# Altium schematic symbol library Dien Tro.SchLib: 576 symbols (part 2 of 3)
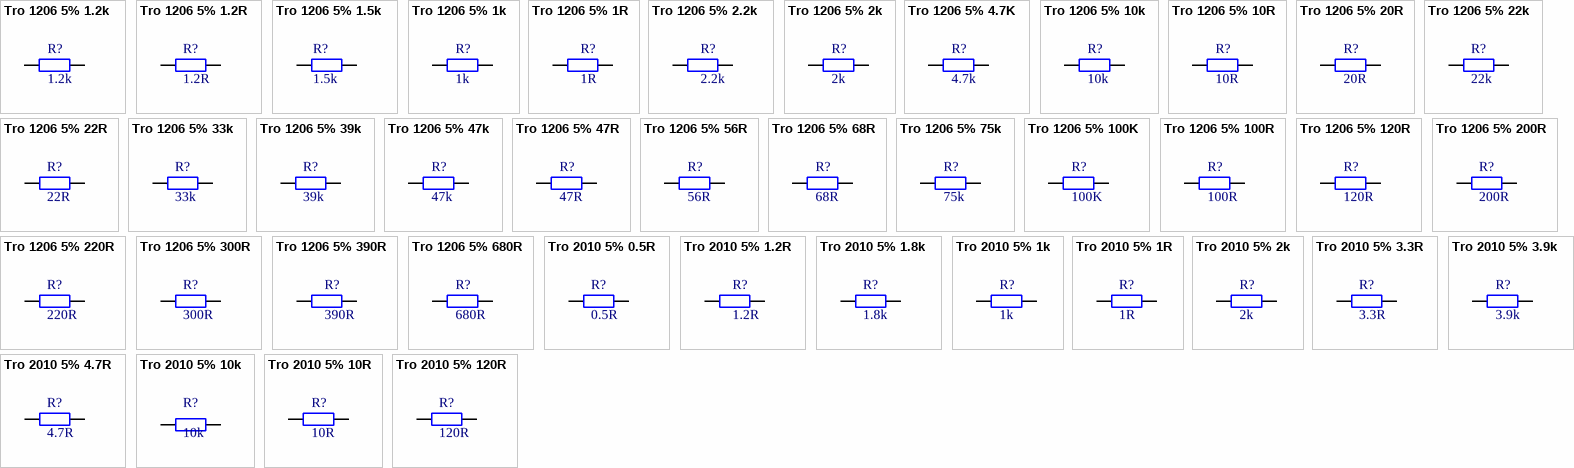
[diagram p15: symbols Tro 1206 5% 1.2k to Tro 2010 5% 120R]

## Tro 2010 5% 10k
designator R?, comment 10k
Dán; Don_Vi: Con; So_Chan: 2; Ten_Linh_Kien: Trở 2010 5% 103-10k; Ma_Hang: MH005617; Chung_Loai: Dán; Kieu_Chan: *
footprint tro smd 2010
pins: 1, 2

## Tro 2010 5% 10R
designator R?, comment 10R
Dán; Don_Vi: Con; So_Chan: 2; Ten_Linh_Kien: Trở 2010 5% 100-10R; Ma_Hang: MH003438; Chung_Loai: Dán; Kieu_Chan: *
footprint tro smd 2010
pins: 1, 2

## Tro 2010 5% 120R
designator R?, comment 120R
Dán; Don_Vi: Con; So_Chan: 2; Ten_Linh_Kien: Trở 2010 5% 121-120R; Ma_Hang: MH003441; Chung_Loai: Dán; Kieu_Chan: *
footprint tro smd 2010
pins: 1, 2

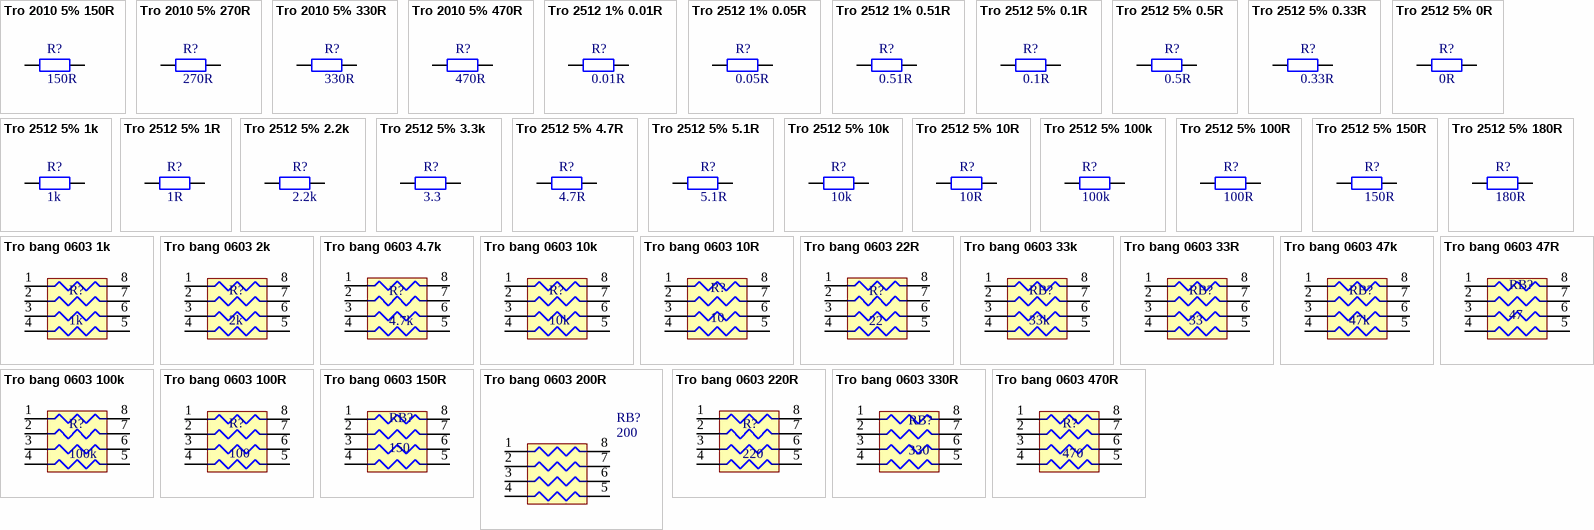
[diagram p6: symbols Tro 2010 5% 150R to Tro bang 0603 470R]

## Tro 2010 5% 150R
designator R?, comment 150R
Dán; Don_Vi: Con; So_Chan: 2; Ten_Linh_Kien: Trở 2010 5% 151-150R; Ma_Hang: MH005996; Chung_Loai: Dán; Kieu_Chan: *
footprint tro smd 2010
pins: 1, 2

## Tro 2010 5% 270R
designator R?, comment 270R
Dán; Don_Vi: Con; So_Chan: 2; Ten_Linh_Kien: Trở 2010 5% 271-270R; Ma_Hang: MH003443; Chung_Loai: Dán; Kieu_Chan: *
footprint tro smd 2010
pins: 1, 2

## Tro 2010 5% 330R
designator R?, comment 330R
Dán; Don_Vi: Con; So_Chan: 2; Ten_Linh_Kien: Trở 2010 5% 331-330R; Ma_Hang: MH003444; Chung_Loai: Dán; Kieu_Chan: *
footprint tro smd 2010
pins: 1, 2

## Tro 2010 5% 470R
designator R?, comment 470R
Dán; Don_Vi: Con; So_Chan: 2; Ten_Linh_Kien: Trở 2010 5% 471-470R; Ma_Hang: MH003445; Chung_Loai: Dán; Kieu_Chan: *
footprint tro smd 2010
pins: 1, 2

## Tro 2512 1% 0.01R
designator R?, comment 0.01R
Dán; Don_Vi: Con; So_Chan: 2; Ten_Linh_Kien: Trở 2512 1% R010-0.01R 1W; Ma_Hang: MH004912; Chung_Loai: Dán; Kieu_Chan: *
footprint tro smd 2512
pins: 1, 2

## Tro 2512 1% 0.05R
designator R?, comment 0.05R
Dán; Don_Vi: Con; So_Chan: 2; Ten_Linh_Kien: Trở 2512 1% R050-0.05R 1W; Ma_Hang: MH004913; Chung_Loai: Dán; Kieu_Chan: *
footprint tro smd 2512
pins: 1, 2

## Tro 2512 1% 0.51R
designator R?, comment 0.51R
Dán; Don_Vi: Con; Ten_Linh_Kien: Trở 2512 1% 0R51-0.5% 1W; Ma_Hang: MH007548; So_Chan: 2; Chung_Loai: Dán; Kieu_Chan: *
footprint tro smd 2512
pins: 1, 2

## Tro 2512 5% 0.1R
designator R?, comment 0.1R
Dán; Don_Vi: Con; So_Chan: 2; Ten_Linh_Kien: Trở 2512 5% 0.1R 1W; Ma_Hang: MH004711; Chung_Loai: Dán; Kieu_Chan: *
footprint tro smd 2512
pins: 1, 2

## Tro 2512 5% 0.5R
designator R?, comment 0.5R
Dán; Don_Vi: Con; So_Chan: 2; Ten_Linh_Kien: Trở 2512 5% R500-0.5R 1W; Ma_Hang: MH003431; Chung_Loai: Dán; Kieu_Chan: *
footprint tro smd 2512
pins: 1, 2

## Tro 2512 5% 0.33R
designator R?, comment 0.33R
Dán; Don_Vi: Con; So_Chan: 2; Ten_Linh_Kien: Trở 2512 5% R330-0.33R 1W; Ma_Hang: MH003432; Chung_Loai: Dán; Kieu_Chan: *
footprint tro smd 2512
pins: 1, 2

## Tro 2512 5% 0R
designator R?, comment 0R
Dán; Don_Vi: Con; So_Chan: 2; Ten_Linh_Kien: Trở 2512 5% 0R 1W; Ma_Hang: MH004712; Chung_Loai: Dán; Kieu_Chan: *
footprint tro smd 2512
pins: 1, 2

## Tro 2512 5% 1k
designator R?, comment 1k
Dán; Don_Vi: Con; So_Chan: 2; Ten_Linh_Kien: Trở 2512 5% 102-1k 1W; Ma_Hang: MH001943; Chung_Loai: Dán; Kieu_Chan: *
footprint tro smd 2512
pins: 1, 2

## Tro 2512 5% 1R
designator R?, comment 1R
Dán; Don_Vi: Con; So_Chan: 2; Ten_Linh_Kien: Trở 2512 5% 1R 1W; Ma_Hang: MH004713; Chung_Loai: Dán; Kieu_Chan: *
footprint tro smd 2512
pins: 1, 2

## Tro 2512 5% 2.2k
designator R?, comment 2.2k
Dán; Don_Vi: Con; So_Chan: 2; Ten_Linh_Kien: Trở 2512 5% 222-2.2k 1W; Ma_Hang: MH001944; Chung_Loai: Dán; Kieu_Chan: *
footprint tro smd 2512
pins: 1, 2

## Tro 2512 5% 3.3k
designator R?, comment 3.3
Dán; Don_Vi: Con; Ten_Linh_Kien: Trở 2512 5% 332-3.3k 1W; Ma_Hang: MH001945; So_Chan: 2; Chung_Loai: Dán; Kieu_Chan: *
footprint tro smd 2512
pins: 1, 2

## Tro 2512 5% 4.7R
designator R?, comment 4.7R
Dán; So_Chan: 2; Ten_Linh_Kien: Trở 2512 5% 4R7-4.7R 1W; Ma_Hang: MH003436; Don_Vi: Con; Kieu_Chan: *; Chung_Loai: Dán
footprint tro smd 2512
pins: 1, 2

## Tro 2512 5% 5.1R
designator R?, comment 5.1R
Dán; Don_Vi: Con; So_Chan: 2; Ten_Linh_Kien: Trở 2512 5% 5R1-5.1R 1W; Ma_Hang: MH003437; Chung_Loai: Dán; Kieu_Chan: *
footprint tro smd 2512
pins: 1, 2

## Tro 2512 5% 10k
designator R?, comment 10k
Dán; Don_Vi: Con; Ten_Linh_Kien: Trở 2512 5% 103-10k 1W; So_Chan: 2; Ma_Hang: MH003439; Chung_Loai: Dán; Kieu_Chan: *
footprint tro smd 2512
pins: 1, 2

## Tro 2512 5% 10R
designator R?, comment 10R
Dán; Don_Vi: Con; So_Chan: 2; Ten_Linh_Kien: Trở 2512 5% 100-10R; Ma_Hang: MH007973; CHung_Loai: Dán; Kieu_Chan: *
footprint tro smd 2512
pins: 1, 2

## Tro 2512 5% 100k
designator R?, comment 100k
Dán; Don_Vi: Con; So_Chan: 2; Ten_Linh_Kien: Trở 2512 5% 104-100k 1W; Ma_Hang: MH001941; Chung_Loai: Dán; Kieu_Chan: *
footprint tro smd 2512
pins: 1, 2

## Tro 2512 5% 100R
designator R?, comment 100R
Dán; Don_Vi: Con; So_Chan: 2; Ten_Linh_Kien: Trở 2512 5% 101-100R; Ma_Hang: MH007974; Chung_Loai: Dán; Kieu_Chan: *
footprint tro smd 2512
pins: 1, 2

## Tro 2512 5% 150R
designator R?, comment 150R
Dán; Don_Vi: Con; So_Chan: 2; Ten_Linh_Kien: Trở 2512 5% 151-150R 1W; Ma_Hang: MH008655; Chung_Loai: Dán; Kieu_Chan: *
footprint tro smd 2512
pins: 1, 2

## Tro 2512 5% 180R
designator R?, comment 180R
Dán; Don_Vi: Con; So_Chan: 2; Ten_Linh_Kien: Trở 2512 5% 181-180R 1W; Ma_Hang: MH008654; Chung_Loai: Dán; Kieu_Chan: *
footprint tro smd 2512
pins: 1, 2

## Tro bang 0603 1k
designator R?, comment 1k
Dán; Don_Vi: Con; So_Chan: 8; Ten_Linh_Kien: Trở băng 0603x4 1k; Ma_Hang: MH001445; Chung_Loai: Dán; Kieu_Chan: *
footprint tro bang 0603 4
pins: 1, 2, 3, 4, 5, 6, 7, 8

## Tro bang 0603 2k
designator R?, comment 2k
Dán; Don_Vi: Con; So_Chan: 8; Ma_Hang: MH001446; Ten_Linh_Kien: Trở băng 0603x4 2k; Chung_Loai: Dán; Kieu_Chan: *
footprint tro bang 0603 4
pins: 1, 2, 3, 4, 5, 6, 7, 8

## Tro bang 0603 4.7k
designator R?, comment 4.7k
Dán; Don_Vi: Con; So_Chan: 8; Ten_Linh_Kien: Trở băng 0603x4 4.7k; Ma_Hang: MH001448; Chung_Loai: Dán; Kieu_Chan: *
footprint tro bang 0603 4
pins: 1, 2, 3, 4, 5, 6, 7, 8

## Tro bang 0603 10k
designator R?, comment 10k
Dán; Don_Vi: Con; So_Chan: 8; Ten_Linh_Kien: Trở băng 0603x4 10k; Ma_Hang: MH001444; Chung_Loai: Dán; Kieu_Chan: *
footprint tro bang 0603 4
pins: 1, 2, 3, 4, 5, 6, 7, 8

## Tro bang 0603 10R
designator R?, comment 10
Dán; Don_Vi: Con; So_Chan: 8; Ten_Linh_Kien: Trở băng 0603x4 10R; Ma_Hang: MH002478; Chung_Loai: Dán; Kieu_Chan: *
footprint tro bang 0603 4
pins: 1, 2, 3, 4, 5, 6, 7, 8

## Tro bang 0603 22R
designator R?, comment 22
Dán; Don_Vi: Con; So_Chan: 8; Ten_Linh_Kien: Trở băng 0603x4 22R; Ma_Hang: MH007246; Chung_Loai: Dán; Kieu_Chan: *
footprint tro bang 0603 4
pins: 1, 2, 3, 4, 5, 6, 7, 8

## Tro bang 0603 33k
designator RB?, comment 33k
Dán; Ten_Linh_Kien: Trở Băng 0603x4 33k; Ma_Hang: MH007247; So_Chan: 8; Don_Vi: Con; Chung_Loai: Dán; Kieu_Chan: *
footprint Tro Bang 0603 4
pins: 1, 2, 3, 4, 5, 6, 7, 8

## Tro bang 0603 33R
designator RB?, comment 33
Dán; Ten_Linh_Kien: Trở Băng 0603x4 33R; Ma_Hang: MH007248; So_Chan: 8; Don_Vi: Con; Chung_Loai: Dán; Kieu_Chan: *
footprint Tro Bang 0603 4
pins: 1, 2, 3, 4, 5, 6, 7, 8

## Tro bang 0603 47k
designator RB?, comment 47k
Dán; Ten_Linh_Kien: Trở Băng 0603x4 47k; Don_Vi: Con; Ma_Hang: MH007249; So_Chan: 8; Chung_Loai: Dán; Kieu_Chan: *
footprint Tro Bang 0603 4
pins: 1, 2, 3, 4, 5, 6, 7, 8

## Tro bang 0603 47R
designator RB?, comment 47
Dán; Ten_Linh_Kien: Trở Băng 0603x4 47R; Don_Vi: Con; So_Chan: 8; Ma_Hang: MH007250; Kieu_Chan: *; Chung_Loai: Dán
footprint Tro Bang 0603 4
pins: 1, 2, 3, 4, 5, 6, 7, 8

## Tro bang 0603 100k
designator R?, comment 100k
Dán; Don_Vi: Con; So_Chan: 8; Ten_Linh_Kien: Trở băng 0603x4 100k; Ma_Hang: MH001451; Chung_Loai: Dán; Kieu_Chan: *
footprint tro bang 0603 4
pins: 1, 2, 3, 4, 5, 6, 7, 8

## Tro bang 0603 100R
designator R?, comment 100
Dán; Don_Vi: Con; So_Chan: 8; Ten_Linh_Kien: Trở băng 0603x4 100R; Ma_Hang: MH001447; Chung_Loai: Dán; Kieu_Chan: *
footprint tro bang 0603 4
pins: 1, 2, 3, 4, 5, 6, 7, 8

## Tro bang 0603 150R
designator RB?, comment 150
Dán; Ten_Linh_Kien: Trở Băng 0603x4 150R; Ma_Hang: MH007251; Don_Vi: Con; So_Chan: 8; Chung_Loai: Dán; Kieu_Chan: *
footprint Tro Bang 0603 4
pins: 1, 2, 3, 4, 5, 6, 7, 8

## Tro bang 0603 200R
designator RB?, comment 200
Dán; Ten_Linh_Kien: Trở Băng 0603x4 200R; Ma_Hang: MH008061; So_Chan: 8; Don_Vi: Con; Kieu_Chan: *; Chung_Loai: Dán
footprint Tro Bang 0603 4
pins: 1, 2, 3, 4, 5, 6, 7, 8

## Tro bang 0603 220R
designator R?, comment 220
Dán; Don_Vi: Con; So_Chan: 8; Ten_Linh_Kien: Trở băng 0603x4 220R; Ma_Hang: MH001450; Chung_Loai: Dán; Kieu_Chan: *
footprint tro bang 0603 4
pins: 1, 2, 3, 4, 5, 6, 7, 8

## Tro bang 0603 330R
designator RB?, comment 330
Dán; Ten_Linh_Kien: Trở Băng 0603x4 330R; Don_Vi: Con; So_Chan: 8; Ma_Hang: MH007252; Kieu_Chan: *; Chung_Loai: Dán
footprint Tro Bang 0603 4
pins: 1, 2, 3, 4, 5, 6, 7, 8

## Tro bang 0603 470R
designator R?, comment 470
Dán; Don_Vi: Con; So_Chan: 8; Ten_Linh_Kien: Trở băng 0603x4 470R; Ma_Hang: MH001449; Chung_Loai: Dán; Kieu_Chan: *
footprint tro bang 0603 4
pins: 1, 2, 3, 4, 5, 6, 7, 8

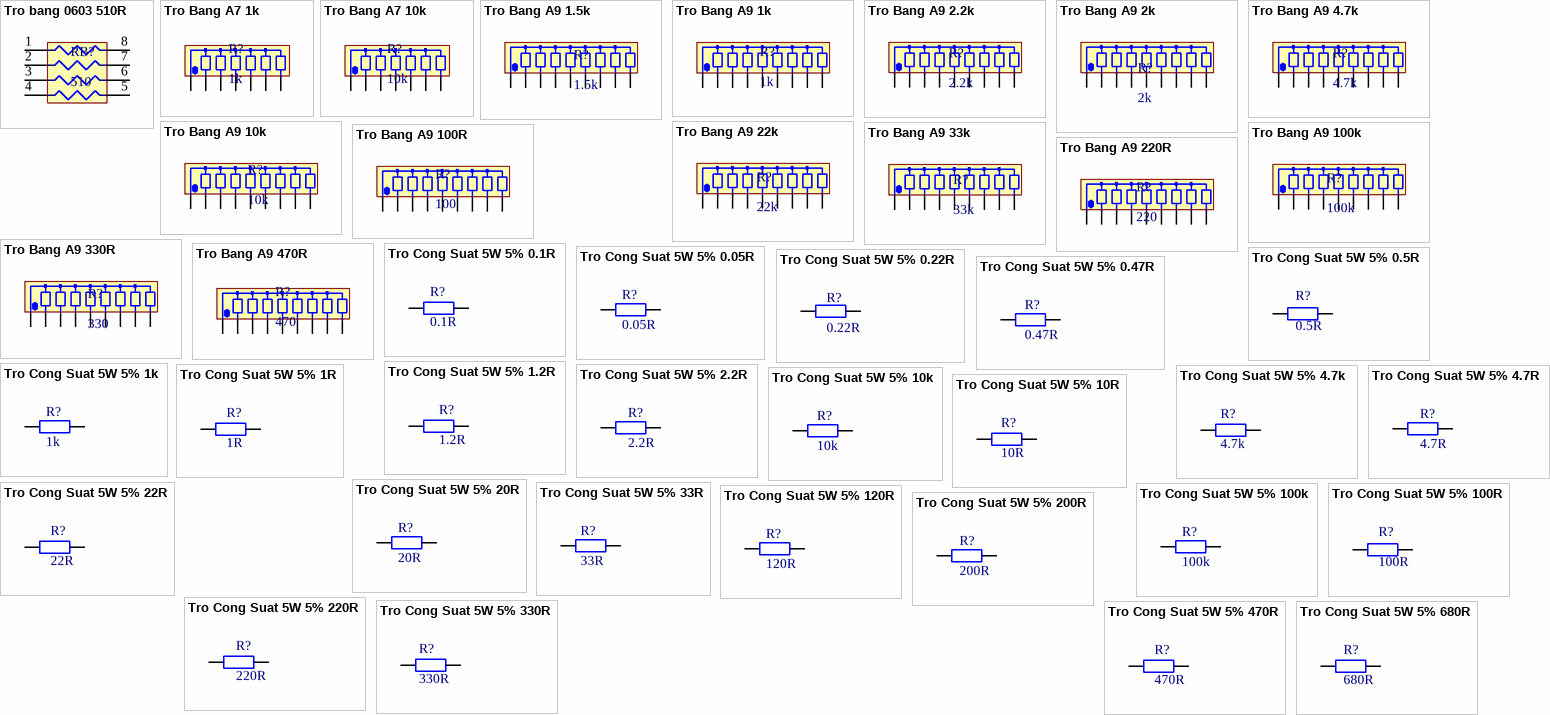
[diagram p7: symbols Tro bang 0603 510R to Tro Cong Suat 5W 5% 680R]

## Tro bang 0603 510R
designator RB?, comment 510
Dán; Ten_Linh_Kien: Trở Băng 0603x4 510R; Ma_Hang: MH007253; Don_Vi: Con; So_Chan: 8; Chung_Loai: Dán; Kieu_Chan: *
footprint Tro Bang 0603 4
pins: 1, 2, 3, 4, 5, 6, 7, 8

## Tro Bang A7 1k
designator R?, comment 1k
Cắm; Don_Vi: Con; So_Chan: 7; Ten_Linh_Kien: Trở Băng A07-102 1K 1/8W 5%; Ma_Hang: MH002004; Chung_Loai: Cắm; Kieu_Chan: *
footprint tro bang a7
pins: 1, 2, 3, 4, 5, 6, 7

## Tro Bang A7 10k
designator R?, comment 10k
Cắm; Don_Vi: Con; So_Chan: 7; Ten_Linh_Kien: Trở Băng A07-103 10K 1/8W 5%; Ma_Hang: MH007440; Chung_Loai: Cắm; Kieu_Chan: *
footprint tro bang a7
pins: 1, 2, 3, 4, 5, 6, 7

## Tro Bang A9 1.5k
designator R?, comment 1.5k
Cắm; Don_Vi: Con; So_Chan: 9; Ten_Linh_Kien: Trở Băng A09-152 1.5k 1/8w 5%; Ma_Hang: MH001437; Chung_Loai: Cắm; Kieu_Chan: *
footprint tro bang a9
pins: 1, 2, 3, 4, 5, 6, 7, 8, 9

## Tro Bang A9 1k
designator R?, comment 1k
Cắm; Don_Vi: Con; So_Chan: 9; Ten_Linh_Kien: Trở Băng A09-102 1k 1/8w 5%; Ma_Hang: MH001435; Chung_Loai: Cắm; Kieu_Chan: *
footprint tro bang a9
pins: 1, 2, 3, 4, 5, 6, 7, 8, 9

## Tro Bang A9 2.2k
designator R?, comment 2.2k
Cắm; Don_Vi: Con; So_Chan: 9; Ten_Linh_Kien: Trở Băng A09-222 2.2k 1/8w 5%; Ma_Hang: MH001441; Chung_Loai: Cắm; Kieu_Chan: *
footprint tro bang a9
pins: 1, 2, 3, 4, 5, 6, 7, 8, 9

## Tro Bang A9 2k
designator R?, comment 2k
Cắm; Don_Vi: Con; So_Chan: 9; Ten_Linh_Kien: Trở Băng A09-202 2k 1/8w 5%; Ma_Hang: MH001440; Chung_Loai: Cắm; Kieu_Chan: *
footprint tro bang a9
pins: 1, 2, 3, 4, 5, 6, 7, 8, 9

## Tro Bang A9 4.7k
designator R?, comment 4.7k
Cắm; Don_Vi: Con; So_Chan: 9; Ten_Linh_Kien: Trở Băng A09-472 4.7k 1/8w 5%; Ma_Hang: MH003693; Chung_Loai: Cắm; Kieu_Chan: *
footprint tro bang a9
pins: 1, 2, 3, 4, 5, 6, 7, 8, 9

## Tro Bang A9 10k
designator R?, comment 10k
Cắm; Don_Vi: Con; So_Chan: 9; Ten_Linh_Kien: Trở Băng A09-103 10k 1/8w 5%; Ma_Hang: MH001442; Chung_Loai: Cắm; Kieu_Chan: *
footprint tro bang a9
pins: 1, 2, 3, 4, 5, 6, 7, 8, 9

## Tro Bang A9 22k
designator R?, comment 22k
Cắm; Don_Vi: Con; So_Chan: 9; Ten_Linh_Kien: Trở Băng A09-223 22k 1/8w 5%; Ma_Hang: MH001439; Chung_Loai: Cắm; Kieu_Chan: *
footprint tro bang a9
pins: 1, 2, 3, 4, 5, 6, 7, 8, 9

## Tro Bang A9 33k
designator R?, comment 33k
Cắm; Don_Vi: Con; So_Chan: 9; Ten_Linh_Kien: Trở Băng A09-333 33k 1/8w 5%; Ma_Hang: MH001438; Chung_Loai: Cắm; Kieu_Chan: *
footprint tro bang a9
pins: 1, 2, 3, 4, 5, 6, 7, 8, 9

## Tro Bang A9 100k
designator R?, comment 100k
Cắm; Don_Vi: Con; So_Chan: 9; Ten_Linh_Kien: Trở Băng A09-104 100k 1/8w 5%; Ma_Hang: MH001443; Chung_Loai: Cắm; Kieu_Chan: *
footprint tro bang a9
pins: 1, 2, 3, 4, 5, 6, 7, 8, 9

## Tro Bang A9 100R
designator R?, comment 100
Cắm; Don_Vi: Con; So_Chan: 9; Ten_Linh_Kien: Trở Băng A09-101 100R 1/8W 5%; Ma_Hang: MH003695; Chung_Loai: Cắm; Kieu_Chan: *
footprint tro bang a9
pins: 1, 2, 3, 4, 5, 6, 7, 8, 9

## Tro Bang A9 220R
designator R?, comment 220
Cắm; Don_Vi: Con; So_Chan: 9; Ten_Linh_Kien: Trở Băng A09-221 220R 1/8W 5%; Ma_Hang: MH003696; Chung_Loai: Cắm; Kieu_Chan: *
footprint tro bang a9
pins: 1, 2, 3, 4, 5, 6, 7, 8, 9

## Tro Bang A9 330R
designator R?, comment 330
Cắm; Don_Vi: Con; So_Chan: 9; Ten_Linh_Kien: Trở Băng A09-331 330R 1/8w 5%; Ma_Hang: MH001436; Chung_Loai: Cắm; Kieu_Chan: *
footprint tro bang a9
pins: 1, 2, 3, 4, 5, 6, 7, 8, 9

## Tro Bang A9 470R
designator R?, comment 470
Cắm; Don_Vi: Con; So_Chan: 9; Ten_Linh_Kien: Trở Băng A09-471 470R 1/8w 5%; Ma_Hang: MH003697; Chung_Loai: Cắm; Kieu_Chan: *
footprint tro bang a9
pins: 1, 2, 3, 4, 5, 6, 7, 8, 9

## Tro Cong Suat 5W 5% 0.1R
designator R?, comment 0.1R
Cắm; Don_Vi: Con; So_Chan: 2; Ten_Linh_Kien: Trở Sứ 5w 5% 0.1R; Ma_Hang: MH006177; Chung_Loai: Cắm; Kieu_Chan: *
footprint tro cong suat 5w
pins: 1, 2

## Tro Cong Suat 5W 5% 0.05R
designator R?, comment 0.05R
Cắm; Don_Vi: Con; So_Chan: 2; Ten_Linh_Kien: Trở Sứ 5w 5% 0.05R; Ma_Hang: MH001093; Chung_Loai: Cắm; Kieu_Chan: *
footprint tro cong suat 5w
pins: 1, 2

## Tro Cong Suat 5W 5% 0.5R
designator R?, comment 0.5R
Cắm; Don_Vi: Con; So_Chan: 2; Ten_Linh_Kien: Trở Sứ 5w 5% 0.5R; Ma_Hang: MH001095; Chung_Loai: Cắm; Kieu_Chan: *
footprint tro cong suat 5w
pins: 1, 2

## Tro Cong Suat 5W 5% 0.22R
designator R?, comment 0.22R
Cắm; Don_Vi: Con; So_Chan: 2; Ten_Linh_Kien: Trở Sứ 5w 5% 0.22R; Ma_Hang: MH001094; Chung_Loai: Cắm; Kieu_Chan: *
footprint tro cong suat 5w
pins: 1, 2

## Tro Cong Suat 5W 5% 0.47R
designator R?, comment 0.47R
Cắm; Don_Vi: Con; So_Chan: 2; Ten_Linh_Kien: Trở Sứ 5w 5% 0.47R; Ma_Hang: MH004056; Chung_Loai: Cắm; Kieu_Chan: *
footprint tro cong suat 5w
pins: 1, 2

## Tro Cong Suat 5W 5% 1.2R
designator R?, comment 1.2R
Cắm; Don_Vi: Con; So_Chan: 2; Ten_Linh_Kien: Trở Sứ 5w 5% 1.2R; Ma_Hang: MH001097; Chung_Loai: Cắm; Kieu_Chan: *
footprint tro cong suat 5w
pins: 1, 2

## Tro Cong Suat 5W 5% 1k
designator R?, comment 1k
Cắm; Don_Vi: Con; Ten_Linh_Kien: Trở Sứ 5w 5% 1k; Ma_Hang: MH001105; So_Chan: 2; Chung_Loai: Cắm; Kieu_Chan: *
footprint tro cong suat 5w
pins: 1, 2

## Tro Cong Suat 5W 5% 1R
designator R?, comment 1R
Cắm; Don_Vi: Con; So_Chan: 2; Ten_Linh_Kien: Trở Sứ 5w 5% 1R; Ma_Hang: MH001096; Chung_Loai: Cắm; Kieu_Chan: *
footprint tro cong suat 5w
pins: 1, 2

## Tro Cong Suat 5W 5% 2.2R
designator R?, comment 2.2R
Cắm; Don_Vi: Con; So_Chan: 2; Ten_Linh_Kien: Trở Sứ 5w 5% 2.2R; Ma_Hang: MH001098; Chung_Loai: Cắm; Kieu_Chan: *
footprint tro cong suat 5w
pins: 1, 2

## Tro Cong Suat 5W 5% 4.7k
designator R?, comment 4.7k
Cắm; Don_Vi: Con; So_Chan: 2; Ten_Linh_Kien: Trở Sứ 5w 5% 4.7k; Ma_Hang: MH006255; Chung_Loai: Cắm; Kieu_Chan: *
footprint tro cong suat 5w
pins: 1, 2

## Tro Cong Suat 5W 5% 4.7R
designator R?, comment 4.7R
Cắm; Don_Vi: Con; So_Chan: 2; Ten_Linh_Kien: Trở Sứ 5w 5% 4.7R; Ma_Hang: MH006254; Chung_Loai: Cắm; Kieu_Chan: *
footprint tro cong suat 5w
pins: 1, 2

## Tro Cong Suat 5W 5% 10k
designator R?, comment 10k
Cắm; Don_Vi: Con; So_Chan: 2; Ten_Linh_Kien: Trở Sứ 5w 5% 10k; Ma_Hang: MH006251; Chung_Loai: Cắm; Kieu_Chan: *
footprint tro cong suat 5w
pins: 1, 2

## Tro Cong Suat 5W 5% 10R
designator R?, comment 10R
Cắm; Don_Vi: Con; So_Chan: 2; Ten_Linh_Kien: Trở Sứ 5w 5% 10R; Ma_Hang: MH001099; Chung_Loai: Cắm; Kieu_Chan: *
footprint tro cong suat 5w
pins: 1, 2

## Tro Cong Suat 5W 5% 20R
designator R?, comment 20R
Cắm; Don_Vi: Con; So_Chan: 2; Ten_Linh_Kien: Trở Sứ 5w 5% 20R; Ma_Hang: MH001100; Chung_Loai: Cắm; Kieu_Chan: *
footprint tro cong suat 5w
pins: 1, 2

## Tro Cong Suat 5W 5% 22R
designator R?, comment 22R
Cắm; Don_Vi: Con; So_Chan: 2; Ten_Linh_Kien: Trở Sứ 5w 5% 22R; Ma_Hang: MH006252; Chung_Loai: Cắm; Kieu_Chan: *
footprint tro cong suat 5w
pins: 1, 2

## Tro Cong Suat 5W 5% 33R
designator R?, comment 33R
Cắm; Don_Vi: Con; So_Chan: 2; Ten_Linh_Kien: Trở Sứ 5w 5% 33R; Ma_Hang: MH006253; Chung_Loai: Cắm; Kieu_Chan: *
footprint tro cong suat 5w
pins: 1, 2

## Tro Cong Suat 5W 5% 100k
designator R?, comment 100k
Cắm; Don_Vi: Con; So_Chan: 2; Ten_Linh_Kien: Trở Sứ 5w 5% 100k; Ma_Hang: MH006250; Chung_Loai: Cắm; Kieu_Chan: *
footprint tro cong suat 5w
pins: 1, 2

## Tro Cong Suat 5W 5% 100R
designator R?, comment 100R
Cắm; Don_Vi: Con; So_Chan: 2; Ten_Linh_Kien: Trở Sứ 5w 5% 100R; Ma_Hang: MH001101; Chung_Loai: Cắm; Kieu_Chan: *
footprint tro cong suat 5w
pins: 1, 2

## Tro Cong Suat 5W 5% 120R
designator R?, comment 120R
Cắm; Don_Vi: Con; So_Chan: 2; Ten_Linh_Kien: Trở Sứ 5w 5% 120R; Ma_Hang: MH006257; Chung_Loai: Cắm; Kieu_Chan: *
footprint tro cong suat 5w
pins: 1, 2

## Tro Cong Suat 5W 5% 200R
designator R?, comment 200R
Cắm; Don_Vi: Con; So_Chan: 2; Ten_Linh_Kien: Trở Sứ 5w 5% 200R; Ma_Hang: MH001102; Chung_Loai: Cắm; Kieu_Chan: *
footprint tro cong suat 5w
pins: 1, 2

## Tro Cong Suat 5W 5% 220R
designator R?, comment 220R
Cắm; Don_Vi: Con; So_Chan: 2; Ten_Linh_Kien: Trở Sứ 5w 5% 220R; Ma_Hang: MH001103; Chung_Loai: Cắm; Kieu_Chan: *
footprint tro cong suat 5w
pins: 1, 2

## Tro Cong Suat 5W 5% 330R
designator R?, comment 330R
Cắm; Don_Vi: Con; Ten_Linh_Kien: Trở Sứ 5w 5% 330R; Ma_Hang: MH001104; So_Chan: 2; Chung_Loai: Cắm; Kieu_Chan: *
footprint tro cong suat 5w
pins: 1, 2

## Tro Cong Suat 5W 5% 470R
designator R?, comment 470R
Cắm; So_Chan: 2; Don_Vi: Con; Ma_Hang: MH006256; Ten_Linh_Kien: Trở Sứ 5w 5% 470R; Chung_Loai: Cắm; Kieu_Chan: *
footprint tro cong suat 5w
pins: 1, 2

## Tro Cong Suat 5W 5% 680R
designator R?, comment 680R
Cắm; So_Chan: 2; Ten_Linh_Kien: Trở Sứ 5w 5% 680R; Don_Vi: Con; Ma_Hang: MH007107; Chung_Loai: Cắm; Kieu_Chan: *
footprint tro cong suat 5w
pins: 1, 2

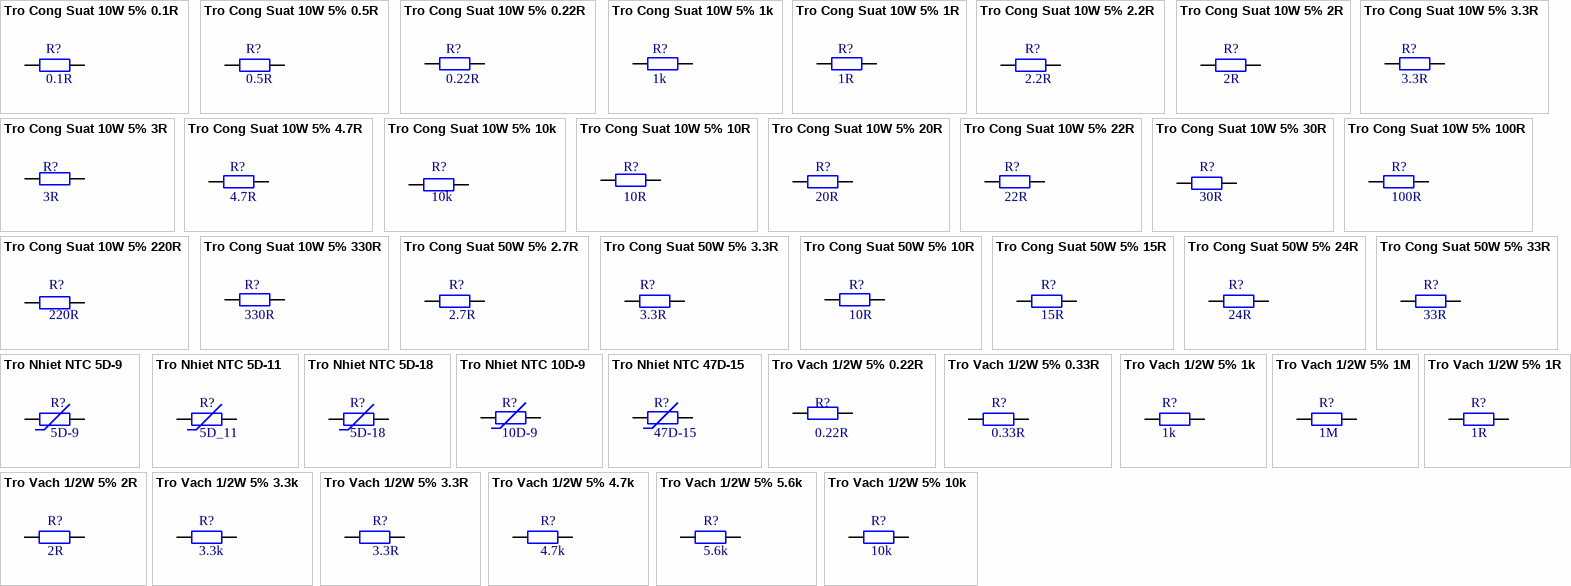
[diagram p8: symbols Tro Cong Suat 10W 5% 0.1R to Tro Vach 1/2W 5% 10k]

## Tro Cong Suat 10W 5% 0.1R
designator R?, comment 0.1R
Cắm; Don_Vi: Con; So_Chan: 2; Ten_Linh_Kien: Trở Sứ 10w 5% 0.1R; Ma_Hang: MH001106; Chung_Loai: Cắm; Kieu_Chan: *
footprint tro cong suat 10w
pins: 1, 2

## Tro Cong Suat 10W 5% 0.5R
designator R?, comment 0.5R
Cắm; Don_Vi: Con; So_Chan: 2; Ten_Linh_Kien: Trở Sứ 10w 5% 0.5R; Ma_Hang: MH001108; Chung_Loai: Cắm; Kieu_Chan: *
footprint tro cong suat 10w
pins: 1, 2

## Tro Cong Suat 10W 5% 0.22R
designator R?, comment 0.22R
Cắm; Don_Vi: Con; So_Chan: 2; Ten_Linh_Kien: Trở Sứ 10w 5% 0.22R; Ma_Hang: MH001107; Chung_Loai: Cắm; Kieu_Chan: *
footprint tro cong suat 10w
pins: 1, 2

## Tro Cong Suat 10W 5% 1k
designator R?, comment 1k
Cắm; Don_Vi: Con; So_Chan: 2; Ten_Linh_Kien: Trở Sứ 10w 5% 1k; Ma_Hang: MH006258; Chung_Loai: Cắm; Kieu_Chan: *
footprint tro cong suat 10w
pins: 1, 2

## Tro Cong Suat 10W 5% 1R
designator R?, comment 1R
Cắm; Don_Vi: Con; So_Chan: 2; Ten_Linh_Kien: Trở Sứ 10w 5% 1R; Ma_Hang: MH001109; Chung_Loai: Cắm; Kieu_Chan: *
footprint tro cong suat 10w
pins: 1, 2

## Tro Cong Suat 10W 5% 2.2R
designator R?, comment 2.2R
Cắm; Don_Vi: Con; So_Chan: 2; Ten_Linh_Kien: Trở Sứ 10w 5% 2.2R; Ma_Hang: MH006259; Chung_Loai: Cắm; Kieu_Chan: *
footprint tro cong suat 10w
pins: 1, 2

## Tro Cong Suat 10W 5% 2R
designator R?, comment 2R
Cắm; Don_Vi: Con; So_Chan: 2; Ten_Linh_Kien: Trở Sứ 10w 5% 2R; Ma_Hang: MH001110; Chung_Loai: Cắm; Kieu_Chan: *
footprint tro cong suat 10w
pins: 1, 2

## Tro Cong Suat 10W 5% 3.3R
designator R?, comment 3.3R
Cắm; Don_Vi: Con; So_Chan: 2; Ten_Linh_Kien: Trở Sứ 10w 5% 3.3R; Ma_Hang: MH006261; Chung_Loai: Cắm; Kieu_Chan: *
footprint tro cong suat 10w
pins: 1, 2

## Tro Cong Suat 10W 5% 3R
designator R?, comment 3R
Cắm; So_Chan: 2; Don_Vi: Con; Ten_Linh_Kien: Trở Sứ 10w 5% 3R; Ma_Hang: MH001111; Chung_Loai: Cắm; Kieu_Chan: *
footprint tro cong suat 10w
pins: 1, 2

## Tro Cong Suat 10W 5% 4.7R
designator R?, comment 4.7R
Cắm; Don_Vi: Con; So_Chan: 2; Ten_Linh_Kien: Trở Sứ 10w 5% 4.7R; Ma_Hang: MH006263; Chung_Loai: Cắm; Kieu_Chan: *
footprint tro cong suat 10w
pins: 1, 2

## Tro Cong Suat 10W 5% 10k
designator R?, comment 10k
Cắm; Don_Vi: Con; So_Chan: 2; Ten_Linh_Kien: Trở Sứ 10w 5% 10k; Ma_Hang: MH001117; Chung_Loai: Cắm; Kieu_Chan: *
footprint tro cong suat 10w
pins: 1, 2

## Tro Cong Suat 10W 5% 10R
designator R?, comment 10R
Cắm; Ma_Hang: MH001112; Ten_Linh_Kien: Trở Sứ 10w 5% 10R; Don_Vi: Con; So_Chan: 2; Chung_Loai: Cắm; Kieu_Chan: *
footprint tro cong suat 10w
pins: 1, 2

## Tro Cong Suat 10W 5% 20R
designator R?, comment 20R
Cắm; Don_Vi: Con; So_Chan: 2; Ten_Linh_Kien: Trở Sứ 10w 5% 20R; Ma_Hang: MH001113; Chung_Loai: Cắm; Kieu_Chan: *
footprint tro cong suat 10w
pins: 1, 2

## Tro Cong Suat 10W 5% 22R
designator R?, comment 22R
Cắm; So_Chan: 2; Don_Vi: Con; Ten_Linh_Kien: Trở Sứ 10w 5% 22R; Ma_Hang: MH001114; Chung_Loai: Cắm; Kieu_Chan: *
footprint tro cong suat 10w
pins: 1, 2

## Tro Cong Suat 10W 5% 30R
designator R?, comment 30R
Cắm; Don_Vi: Con; So_Chan: 2; Ten_Linh_Kien: Trở Sứ 10w 5% 30R; Ma_Hang: MH001115; Chung_Loai: Cắm; Kieu_Chan: *
footprint tro cong suat 10w
pins: 1, 2

## Tro Cong Suat 10W 5% 100R
designator R?, comment 100R
Cắm; Don_Vi: Con; So_Chan: 2; Ten_Linh_Kien: Trở Sứ 10w 5% 100R; Ma_Hang: MH001116; Chung_Loai: Cắm; Kieu_Chan: *
footprint tro cong suat 10w
pins: 1, 2

## Tro Cong Suat 10W 5% 220R
designator R?, comment 220R
Cắm; Don_Vi: Con; So_Chan: 2; Ten_Linh_Kien: Trở Sứ 10w 5% 220R; Ma_Hang: MH006260; Chung_Loai: Cắm; Kieu_Chan: *
footprint tro cong suat 10w
pins: 1, 2

## Tro Cong Suat 10W 5% 330R
designator R?, comment 330R
Cắm; Don_Vi: Con; So_Chan: 2; Ten_Linh_Kien: Trở Sứ 10w 5% 330R; Ma_Hang: MH006262; Chung_Loai: Cắm; Kieu_Chan: *
footprint tro cong suat 10w
pins: 1, 2

## Tro Cong Suat 50W 5% 2.7R
designator R?, comment 2.7R
Cắm; Don_Vi: Con; So_Chan: 2; Ten_Linh_Kien: Trở 50W 5% 2.7R RX24; Ma_Hang: MH006137; Chung_Loai: Cắm; Kieu_Chan: *
footprint tro cong suat 50w
pins: 1, 2

## Tro Cong Suat 50W 5% 3.3R
designator R?, comment 3.3R
Cắm; Don_Vi: Con; So_Chan: 2; Ten_Linh_Kien: Trở 50W 3.3R RX24; Ma_Hang: MH006138; Chung_Loai: Cắm; Kieu_Chan: *
footprint tro cong suat 50w
pins: 1, 2

## Tro Cong Suat 50W 5% 10R
designator R?, comment 10R
Cắm; Don_Vi: Con; So_Chan: 2; Ten_Linh_Kien: Trở 50W 5% 10R RX24; Ma_Hang: MH006139; Chung_Loai: Cắm; Kieu_Chan: *
footprint tro cong suat 50w
pins: 1, 2

## Tro Cong Suat 50W 5% 15R
designator R?, comment 15R
Cắm; Don_Vi: Con; So_Chan: 2; Ten_Linh_Kien: Trở 50W 5% 15R RX24; Ma_Hang: MH006130; Chung_Loai: Cắm; Kieu_Chan: *
footprint tro cong suat 50w
pins: 1, 2

## Tro Cong Suat 50W 5% 24R
designator R?, comment 24R
Cắm; Don_Vi: Con; So_Chan: 2; Ten_Linh_Kien: Trở 50W 5% 24R RX24; Ma_Hang: MH006131; Chung_Loai: Cắm; Kieu_Chan: *
footprint tro cong suat 50w
pins: 1, 2

## Tro Cong Suat 50W 5% 33R
designator R?, comment 33R
Cắm; Don_Vi: Con; So_Chan: 2; Ten_Linh_Kien: Trở 50W 5% 33R RX24; Ma_Hang: MH006132; Chung_Loai: Cắm; Kieu_Chan: *
footprint tro cong suat 50w
pins: 1, 2

## Tro Nhiet NTC 5D-9
designator R?, comment 5D-9
Cắm; So_Chan: 2; Don_Vi: Con; Ten_Linh_Kien: Điện Trở Nhiệt NTC 5D-9; Ma_Hang: MH005857; Chung_Loai: Cắm; Kieu_Chan: *
footprint tro nhiet d-9
pins: 1, 2

## Tro Nhiet NTC 5D-11
designator R?, comment 5D_11
Cắm; Don_Vi: Con; So_Chan: 2; Ten_Linh_Kien: Điện Trở Nhiệt NTC 5D-11; Ma_Hang: MH007999; Chung_Loai: Cắm; Kieu_Chan: *
footprint tro nhiet d11
pins: 1, 2

## Tro Nhiet NTC 5D-18
designator R?, comment 5D-18
Cắm; So_Chan: 2; Ten_Linh_Kien: Điện trở nhiệt NTC 5D-18; Don_Vi: Con; Ma_Hang: MH00881124; Chung_Loai: Cắm; Kieu_Chan: *
footprint tro nhiet d18
pins: 1, 2

## Tro Nhiet NTC 10D-9
designator R?, comment 10D-9
Cắm; So_Chan: 2; Don_Vi: Con; Ten_Linh_Kien: Điện trở nhiệt NTC 10D-9; Ma_Hang: MH000922; Chung_Loai: Cắm; Kieu_Chan: *
footprint tro nhiet d-9
pins: 1, 2

## Tro Nhiet NTC 47D-15
designator R?, comment 47D-15
Cắm; Don_Vi: Con; So_Chan: 2; Ten_Linh_Kien: Điện Trở Nhiệt NTC 47D-15; Ma_Hang: MH005858; Chung_Loai: Cắm; Kieu_Chan: *
footprint tro nhiet d15
pins: 1, 2

## Tro Vach 1/2W 5% 0.22R
designator R?, comment 0.22R
Cắm; So_Chan: 2; Ten_Linh_Kien: Trở 5% 1/2w 0.22R; Ma_Hang: MH006031; Don_Vi: Con; Chung_Loai: Cắm; Kieu_Chan: *
footprint tro vach 1/2w
pins: 1, 2

## Tro Vach 1/2W 5% 0.33R
designator R?, comment 0.33R
Cắm; Don_Vi: Con; So_Chan: 2; Ten_Linh_Kien: Trở 5% 1/2w 0.33R; Ma_Hang: MH007239; Chung_Loai: Cắm; Kieu_Chan: *
footprint tro vach 1/2w
pins: 1, 2

## Tro Vach 1/2W 5% 1k
designator R?, comment 1k
Cắm; Don_Vi: Con; So_Chan: 2; Ten_Linh_Kien: Trở 5% 1/2w 1K; Ma_Hang: MH007240; Chung_Loai: Cắm; Kieu_Chan: *
footprint tro vach 1/2w
pins: 1, 2

## Tro Vach 1/2W 5% 1M
designator R?, comment 1M
Cắm; Don_Vi: Con; So_Chan: 2; Ten_Linh_Kien: Trở 5% 1/2w 1M; Ma_Hang: MH007242; Chung_Loai: Cắm; Kieu_Chan: *
footprint tro vach 1/2w
pins: 1, 2

## Tro Vach 1/2W 5% 1R
designator R?, comment 1R
Cắm; So_Chan: 2; Ten_Linh_Kien: Trở 5% 1/2w 1R; Don_Vi: Con; Ma_Hang: MH006189; Chung_Loai: Cắm; Kieu_Chan: *
footprint tro vach 1/2w
pins: 1, 2

## Tro Vach 1/2W 5% 2R
designator R?, comment 2R
Cắm; Don_Vi: Con; So_Chan: 2; Ten_Linh_Kien: Trở 5% 1/2w 2R; Ma_Hang: MH006193; Chung_Loai: Cắm; Kieu_Chan: *
footprint tro vach 1/2w
pins: 1, 2

## Tro Vach 1/2W 5% 3.3k
designator R?, comment 3.3k
Cắm; Don_Vi: Con; So_Chan: 2; Ten_Linh_Kien: Trở 5% 1/2w 3.3k; Ma_Hang: MH006194; Chung_Loai: Cắm; Kieu_Chan: *
footprint tro vach 1/2w
pins: 1, 2

## Tro Vach 1/2W 5% 3.3R
designator R?, comment 3.3R
Cắm; So_Chan: 2; Ten_Linh_Kien: Trở 5% 1/2w 3.3R; Ma_Hang: MH006203; Don_Vi: Con; Chung_Loai: Cắm; Kieu_Chan: *
footprint tro vach 1/2w
pins: 1, 2

## Tro Vach 1/2W 5% 4.7k
designator R?, comment 4.7k
Cắm; Don_Vi: Con; So_Chan: 2; Ten_Linh_Kien: Trở 5% 1/2w 4.7k; Ma_Hang: MH006198; Chung_Loai: Cắm; Kieu_Chan: *
footprint tro vach 1/2w
pins: 1, 2

## Tro Vach 1/2W 5% 5.6k
designator R?, comment 5.6k
Cắm; Don_Vi: Con; So_Chan: 2; Ten_Linh_Kien: Trở 5% 1/2w 5.6k; Ma_Hang: MH006205; Chung_Loai: Cắm; Kieu_Chan: *
footprint tro vach 1/2w
pins: 1, 2

## Tro Vach 1/2W 5% 10k
designator R?, comment 10k
Cắm; Don_Vi: Con; So_Chan: 2; Ten_Linh_Kien: Trở 5% 1/2w 10k; Ma_Hang: MH006206; Chung_Loai: Cắm; Kieu_Chan: *
footprint tro vach 1/2w
pins: 1, 2

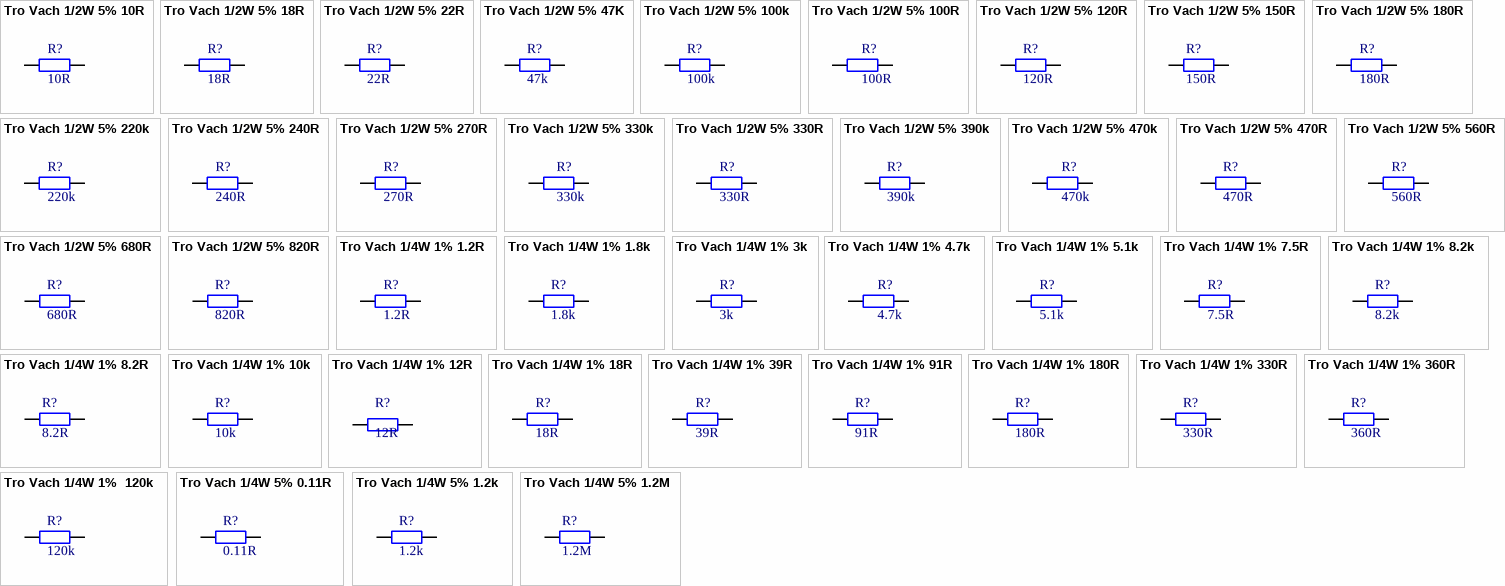
[diagram p9: symbols Tro Vach 1/2W 5% 10R to Tro Vach 1/4W 5% 1.2M]

## Tro Vach 1/2W 5% 10R
designator R?, comment 10R
Cắm; So_Chan: 2; Ten_Linh_Kien: Trở 5% 1/2w 10R; Ma_Hang: MH007243; Don_Vi: Con; Chung_Loai: Cắm; Kieu_Chan: *
footprint tro vach 1/2w
pins: 1, 2

## Tro Vach 1/2W 5% 18R
designator R?, comment 18R
Cắm; Don_Vi: Con; So_Chan: 2; Ten_Linh_Kien: Trở 5% 1/2w 18R; Ma_Hang: MH007238; Chung_Loai: Cắm; Kieu_Chan: *
footprint tro vach 1/2w
pins: 1, 2

## Tro Vach 1/2W 5% 22R
designator R?, comment 22R
Cắm; Don_Vi: Con; So_Chan: 2; Ten_Linh_Kien: Trở 5% 1/2w 22R; Ma_Hang: MH008001; Chung_Loai: Cắm; Kieu_Chan: *
footprint tro vach 1/2w
pins: 1, 2

## Tro Vach 1/2W 5% 47K
designator R?, comment 47k
Cắm; Don_Vi: Con; So_Chan: 2; Ten_Linh_Kien: Trở 5% 1/2w 47k; Ma_Hang: MH008002; Chung_Loai: Cắm; Kieu_Chan: *
footprint tro vach 1/2w
pins: 1, 2

## Tro Vach 1/2W 5% 100k
designator R?, comment 100k
Cắm; Don_Vi: Con; So_Chan: 2; Ten_Linh_Kien: Trở 5% 1/2w 100k; Ma_Hang: MH007241; Chung_Loai: Cắm; Kieu_Chan: *
footprint tro vach 1/2w
pins: 1, 2

## Tro Vach 1/2W 5% 100R
designator R?, comment 100R
Cắm; So_Chan: 2; Ten_Linh_Kien: Trở 5% 1/2w 100R; Ma_Hang: MH007106; Don_Vi: Con; Chung_Loai: Cắm; Kieu_Chan: *
footprint tro vach 1/2w
pins: 1, 2

## Tro Vach 1/2W 5% 120R
designator R?, comment 120R
Cắm; Don_Vi: Con; So_Chan: 2; Ten_Linh_Kien: Trở 5% 1/2w 120R; Ma_Hang: MH007237; Chung_Loai: Cắm; Kieu_Chan: *
footprint tro vach 1/2w
pins: 1, 2

## Tro Vach 1/2W 5% 150R
designator R?, comment 150R
Cắm; Don_Vi: Con; So_Chan: 2; Ten_Linh_Kien: Trở 5% 1/2w 150R; Ma_Hang: MH007244; Chung_Loai: Cắm; Kieu_Chan: *
footprint tro vach 1/2w
pins: 1, 2

## Tro Vach 1/2W 5% 180R
designator R?, comment 180R
Cắm; Don_Vi: Con; So_Chan: 2; Ten_Linh_Kien: Trở 5% 1/2w 180R; Ma_Hang: MH006568; Chung_Loai: Cắm; Kieu_Chan: *
footprint tro vach 1/2w
pins: 1, 2

## Tro Vach 1/2W 5% 220k
designator R?, comment 220k
Cắm; Don_Vi: Con; So_Chan: 2; Ten_Linh_Kien: Trở 5% 1/2w 220k; Ma_Hang: MH006190; Chung_Loai: Cắm; Kieu_Chan: *
footprint tro vach 1/2w
pins: 1, 2

## Tro Vach 1/2W 5% 240R
designator R?, comment 240R
Cắm; Don_Vi: Con; So_Chan: 2; Ten_Linh_Kien: Trở 5% 1/2w 240R; Ma_Hang: MH006191; Kieu_Chan: *; Chung_Loai: Cắm
footprint tro vach 1/2w
pins: 1, 2

## Tro Vach 1/2W 5% 270R
designator R?, comment 270R
Cắm; Don_Vi: Con; So_Chan: 2; Ten_Linh_Kien: Trở 5% 1/2w 270R; Ma_Hang: MH006192; Chung_Loai: Cắm; Kieu_Chan: *
footprint tro vach 1/2w
pins: 1, 2

## Tro Vach 1/2W 5% 330k
designator R?, comment 330k
Cắm; So_Chan: 2; Ten_Linh_Kien: Trở 5% 1/2w 330k; Ma_Hang: MH006196; Don_Vi: Con; Chung_Loai: Cắm; Kieu_Chan: *
footprint tro vach 1/2w
pins: 1, 2

## Tro Vach 1/2W 5% 330R
designator R?, comment 330R
Cắm; Don_Vi: Con; So_Chan: 2; Ten_Linh_Kien: Trở 5% 1/2w 330R; Ma_Hang: MH006204; Chung_Loai: Cắm; Kieu_Chan: *
footprint tro vach 1/2w
pins: 1, 2

## Tro Vach 1/2W 5% 390k
designator R?, comment 390k
Cắm; So_Chan: 2; Don_Vi: Con; Ten_Linh_Kien: Trở 5% 1/2w 390k; Ma_Hang: MH006197; Chung_Loai: Cắm; Kieu_Chan: *
footprint tro vach 1/2w
pins: 1, 2

## Tro Vach 1/2W 5% 470k
designator R?, comment 470k
Cắm; Don_Vi: Con; So_Chan: 2; Ten_Linh_Kien: Trở 5% 1/2w 470k; Ma_Hang: MH006199; Chung_Loai: Cắm; Kieu_Chan: *
footprint tro vach 1/2w
pins: 1, 2

## Tro Vach 1/2W 5% 470R
designator R?, comment 470R
Cắm; Don_Vi: Con; So_Chan: 2; Ten_Linh_Kien: Trở 5% 1/2w 470R; Ma_Hang: MH006200; Chung_Loai: Cắm; Kieu_Chan: *
footprint tro vach 1/2w
pins: 1, 2

## Tro Vach 1/2W 5% 560R
designator R?, comment 560R
Cắm; So_Chan: 2; Ten_Linh_Kien: Trở 5% 560R; Don_Vi: Con; Ma_Hang: MH006201; Chung_Loai: Cắm; Kieu_Chan: *
footprint tro vach 1/2w
pins: 1, 2

## Tro Vach 1/2W 5% 680R
designator R?, comment 680R
Cắm; Don_Vi: Con; So_Chan: 2; Ten_Linh_Kien: Trở 5% 1/2w 680R; Ma_Hang: MH006207; Chung_Loai: Cắm; Kieu_Chan: *
footprint tro vach 1/2w
pins: 1, 2

## Tro Vach 1/2W 5% 820R
designator R?, comment 820R
Cắm; Don_Vi: Con; So_Chan: 2; Ten_Linh_Kien: Trở 5% 1/2w 820R; Ma_Hang: MH006202; Chung_Loai: Cắm; Kieu_Chan: *
footprint tro vach 1/2w
pins: 1, 2

## Tro Vach 1/4W 1% 1.2R
designator R?, comment 1.2R
Cắm; Don_Vi: Con; So_Chan: 2; Ten_Linh_Kien: Trở Vạch 1/4W 1% 1.2R; Ma_Hang: MH006341; Chung_Loai: Cắm; Kieu_Chan: *
footprint tro vach 1/4w
pins: 1, 2

## Tro Vach 1/4W 1% 1.8k
designator R?, comment 1.8k
Cắm; Don_Vi: Con; So_Chan: 2; Ten_Linh_Kien: Trở Vạch 1/4W 1% 1.8k; Ma_Hang: MH006347; Chung_Loai: Cắm; Kieu_Chan: *
footprint tro vach 1/4w
pins: 1, 2

## Tro Vach 1/4W 1% 3k
designator R?, comment 3k
Cắm; Don_Vi: Con; So_Chan: 2; Ten_Linh_Kien: Trở Vạch 1/4W 1% 3k; Ma_Hang: MH008834; Chung_Loai: Cắm; Kieu_Chan: *
footprint tro vach 1/4w
pins: 1, 2

## Tro Vach 1/4W 1% 4.7k
designator R?, comment 4.7k
Cắm; Don_Vi: Con; So_Chan: 2; Ten_Linh_Kien: Trở Vạch 1/4w 1% 4.7k; Ma_Hang: MH006350; Chung_Loai: Cắm; Kieu_Chan: *
footprint tro vach 1/4w
pins: 1, 2

## Tro Vach 1/4W 1% 5.1k
designator R?, comment 5.1k
Cắm; Don_Vi: Con; So_Chan: 2; Ten_Linh_Kien: Trở Vạch 1/4w 1% 5.1k; Ma_Hang: MH008832; Chung_Loai: Cắm; Kieu_Chan: *
footprint tro vach 1/4w
pins: 1, 2

## Tro Vach 1/4W 1% 7.5R
designator R?, comment 7.5R
Cắm; Don_Vi: Con; So_Chan: 2; Ten_Linh_Kien: Trở Vạch 1/4w 1% 7.5R; Ma_Hang: MH006343; Chung_Loai: Cắm; Kieu_Chan: *
footprint tro vach 1/4w
pins: 1, 2

## Tro Vach 1/4W 1% 8.2k
designator R?, comment 8.2k
Cắm; Ten_Linh_Kien: Trở Vạch 1/4w 1% 8.2k; Don_Vi: Con; So_Chan: 2; Ma_Hang: MH008831; Chung_Loai: Cắm; Kieu_Chan: *
footprint tro vach 1/4w
pins: 1, 2

## Tro Vach 1/4W 1% 8.2R
designator R?, comment 8.2R
Cắm; Don_Vi: Con; So_Chan: 2; Ten_Linh_Kien: Trở Vạch 1/4W 1% 8.2R; Ma_Hang: MH006344; Chung_Loai: Cắm; Kieu_Chan: *
footprint tro vach 1/4w
pins: 1, 2

## Tro Vach 1/4W 1% 10k
designator R?, comment 10k
Cắm; Don_Vi: Con; So_Chan: 2; Ten_Linh_Kien: Trở Vạch 1/4w 1% 10k; Ma_Hang: MH006349; Chung_Loai: Cắm; Kieu_Chan: *
footprint tro vach 1/4w
pins: 1, 2

## Tro Vach 1/4W 1% 12R
designator R?, comment 12R
Cắm; Don_Vi: Con; So_Chan: 2; Ten_Linh_Kien: Trở Vạch 1/4W 1% 12R; Ma_Hang: MH006339; Chung_Loai: Cắm; Kieu_Chan: *
footprint tro vach 1/4w
pins: 1, 2

## Tro Vach 1/4W 1% 18R
designator R?, comment 18R
Cắm; Don_Vi: Con; So_Chan: 2; Ten_Linh_Kien: Trở Vạch 1/4w 1% 18R; Ma_Hang: MH006340; Chung_Loai: Cắm; Kieu_Chan: *
footprint tro vach 1/4w
pins: 1, 2

## Tro Vach 1/4W 1% 39R
designator R?, comment 39R
Cắm; Don_Vi: Con; So_Chan: 2; Ten_Linh_Kien: Trở Vạch 1/4w 1% 39R; Ma_Hang: MH006342; Chung_Loai: Cắm; Kieu_Chan: *
footprint tro vach 1/4w
pins: 1, 2

## Tro Vach 1/4W 1% 91R
designator R?, comment 91R
Cắm; Don_Vi: Con; So_Chan: 2; Ten_Linh_Kien: Trở Vạch 1/4W 1% 91R; Ma_Hang: MH006345; Chung_Loai: Cắm; Kieu_Chan: *
footprint tro vach 1/4w
pins: 1, 2

## Tro Vach 1/4W 1% 180R
designator R?, comment 180R
Cắm; Don_Vi: Con; So_Chan: 2; Ten_Linh_Kien: Trở Vạch 1/4W 1% 180R; Ma_Hang: MH006346; Chung_Loai: Cắm; Kieu_Chan: *
footprint tro vach 1/4w
pins: 1, 2

## Tro Vach 1/4W 1% 330R
designator R?, comment 330R
Cắm; Don_Vi: Con; So_Chan: 2; Ten_Linh_Kien: Trở Vạch 1/4w 1% 330R; Ma_Hang: MH006348; Chung_Loai: Cắm; Kieu_Chan: *
footprint tro vach 1/4w
pins: 1, 2

## Tro Vach 1/4W 1% 360R
designator R?, comment 360R
Cắm; Don_Vi: Con; So_Chan: 2; Ten_Linh_Kien: Trở Vạch 1/4W 1% 360R; Ma_Hang: MH008835; Chung_Loai: Cắm; Kieu_Chan: *
footprint tro vach 1/4w
pins: 1, 2

## Tro Vach 1/4W 1%  120k
designator R?, comment 120k
Cắm; Don_Vi: Con; Ten_Linh_Kien: Trở Vạch 1/4W 1% 120k; So_Chan: 2; Ma_Hang: MH008833; Chung_Loai: Cắm; Kieu_Chan: *
footprint tro vach 1/4w
pins: 1, 2

## Tro Vach 1/4W 5% 0.11R
designator R?, comment 0.11R
Cắm; Don_Vi: Con; So_Chan: 2; Ten_Linh_Kien: Trở Vạch 1/4w 5% 0.11R; Ma_Hang: MH005220; Chung_Loai: Cắm; Kieu_Chan: *
footprint tro vach 1/4w
pins: 1, 2

## Tro Vach 1/4W 5% 1.2k
designator R?, comment 1.2k
Cắm; Don_Vi: Con; Ten_Linh_Kien: Trở Vạch 1/4w 5% 1.2k; So_Chan: 2; Ma_Hang: MH007348; Chung_Loai: Cắm; Kieu_Chan: *
footprint tro vach 1/4w
pins: 1, 2

## Tro Vach 1/4W 5% 1.2M
designator R?, comment 1.2M
Cắm; Don_Vi: Con; So_Chan: 2; Ten_Linh_Kien: Trở Vạch 1/4w 5% 1.2M; Ma_Hang: MH007349; Chung_Loai: Cắm; Kieu_Chan: *
footprint tro vach 1/4w
pins: 1, 2

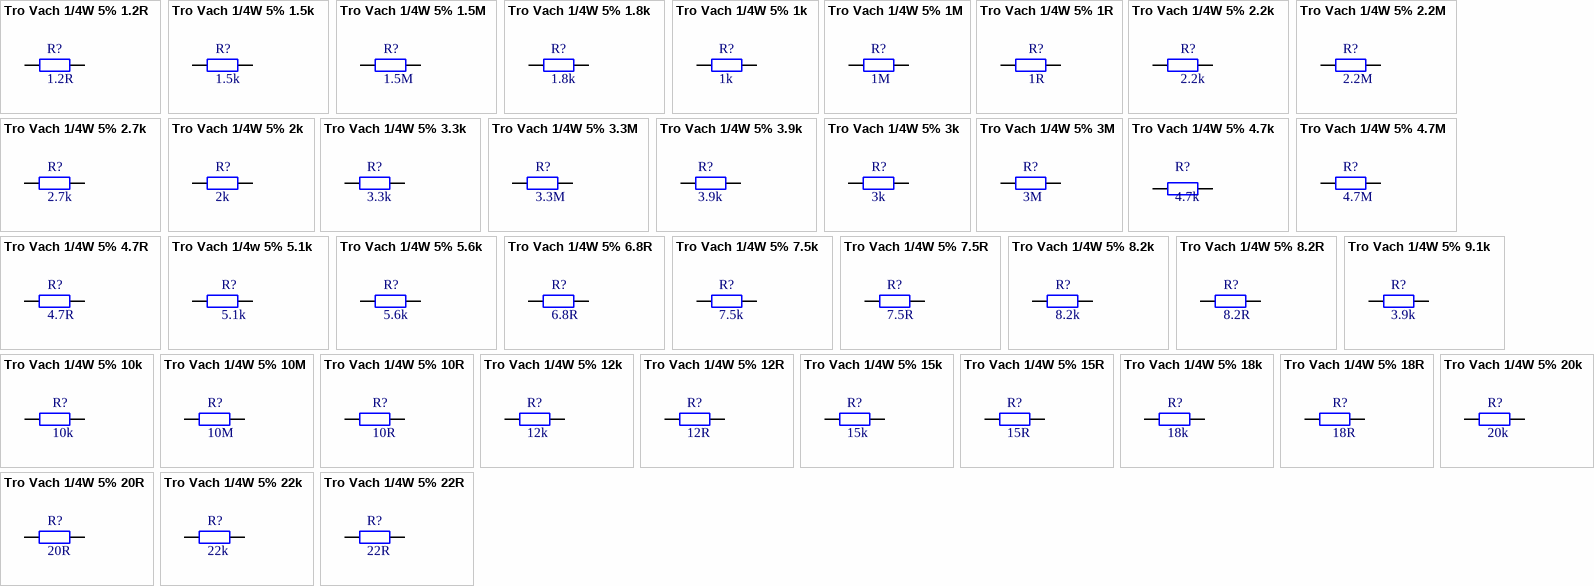
[diagram p10: symbols Tro Vach 1/4W 5% 1.2R to Tro Vach 1/4W 5% 22R]

## Tro Vach 1/4W 5% 1.2R
designator R?, comment 1.2R
Cắm; Don_Vi: Con; So_Chan: 2; Ten_Linh_Kien: Trở Vạch 1/4w 5% 1.2R; Ma_Hang: MH007350; Chung_Loai: Cắm; Kieu_Chan: *
footprint tro vach 1/4w
pins: 1, 2

## Tro Vach 1/4W 5% 1.5k
designator R?, comment 1.5k
Cắm; Don_Vi: Con; So_Chan: 2; Ten_Linh_Kien: Trở Vạch 1/4w 5% 1.5k; Ma_Hang: MH007284; Chung_Loai: Cắm; Kieu_Chan: *
footprint tro vach 1/4w
pins: 1, 2

## Tro Vach 1/4W 5% 1.5M
designator R?, comment 1.5M
Cắm; So_Chan: 2; Ten_Linh_Kien: Trở Vạch 1/4w 5% 1.5M; Ma_Hang: MH007351; Don_Vi: Con; Chung_Loai: Cắm; Kieu_Chan: *
footprint tro vach 1/4w
pins: 1, 2

## Tro Vach 1/4W 5% 1.8k
designator R?, comment 1.8k
Cắm; Don_Vi: Con; So_Chan: 2; Ten_Linh_Kien: Trở Vạch 1/4w 5% 1.8k; Ma_Hang: MH007285; Chung_Loai: Cắm; Kieu_Chan: *
footprint tro vach 1/4w
pins: 1, 2

## Tro Vach 1/4W 5% 1k
designator R?, comment 1k
Cắm; Don_Vi: Con; So_Chan: 2; Ten_Linh_Kien: Trở Vạch 1/4w 5% 1k; Ma_Hang: MH007390; Chung_Loai: Cắm; Kieu_Chan: *
footprint tro vach 1/4w
pins: 1, 2

## Tro Vach 1/4W 5% 1M
designator R?, comment 1M
Cắm; So_Chan: 2; Don_Vi: Con; Ten_Linh_Kien: Trở Vạch 1/4w 5% 1M; Ma_Hang: MH007392; Chung_Loai: Cắm; Kieu_Chan: *
footprint tro vach 1/4w
pins: 1, 2

## Tro Vach 1/4W 5% 1R
designator R?, comment 1R
Cắm; Don_Vi: Con; So_Chan: 2; Ten_Linh_Kien: Trở Vạch 1/4w 5% 1R; Ma_Hang: MH007394; Chung_Loai: Cắm; Kieu_Chan: *
footprint tro vach 1/4w
pins: 1, 2

## Tro Vach 1/4W 5% 2.2k
designator R?, comment 2.2k
Cắm; Don_Vi: Con; So_Chan: 2; Ten_Linh_Kien: Trở Vạch 1/4w 5% 2.2k; Ma_Hang: MH007293; Chung_Loai: Cắm; Kieu_Chan: *
footprint tro vach 1/4w
pins: 1, 2

## Tro Vach 1/4W 5% 2.2M
designator R?, comment 2.2M
Cắm; Don_Vi: Con; So_Chan: 2; Ten_Linh_Kien: Trở Vạch 1/4W 5% 2.2M; Ma_Hang: MH007433; Chung_Loai: Cắm; Kieu_Chan: *
footprint tro vach 1/4w
pins: 1, 2

## Tro Vach 1/4W 5% 2.7k
designator R?, comment 2.7k
Cắm; Don_Vi: Con; So_Chan: 2; Ten_Linh_Kien: Trở Vạch 1/4w 5% 2.7k; Ma_Hang: MH007294; Chung_Loai: Cắm; Kieu_Chan: *
footprint tro vach 1/4w
pins: 1, 2

## Tro Vach 1/4W 5% 2k
designator R?, comment 2k
Cắm; Don_Vi: Con; So_Chan: 2; Ten_Linh_Kien: Trở Vạch 1/4w 5% 2k; Ma_Hang: MH007305; Chung_Loai: Cắm; Kieu_Chan: *
footprint tro vach 1/4w
pins: 1, 2

## Tro Vach 1/4W 5% 3.3k
designator R?, comment 3.3k
Cắm; Don_Vi: Con; So_Chan: 2; Ten_Linh_Kien: Trở vạch 1/4w 5% 3.3k; Ma_Hang: MH007306; Chung_Loai: Cắm; Kieu_Chan: *
footprint tro vach 1/4w
pins: 1, 2

## Tro Vach 1/4W 5% 3.3M
designator R?, comment 3.3M
Cắm; So_Chan: 2; Don_Vi: Con; Ten_Linh_Kien: Trở Vạch 1/4w 5% 3.3M; Ma_Hang: MH000932; Chung_Loai: Cắm; Kieu_Chan: *
footprint tro vach 1/4w
pins: 1, 2

## Tro Vach 1/4W 5% 3.9k
designator R?, comment 3.9k
Cắm; Don_Vi: Con; So_Chan: 2; Ten_Linh_Kien: Trở Vạch 1/4w 5% 3.9K; Ma_Hang: MH007307; Chung_Loai: Cắm; Kieu_Chan: *
footprint tro vach 1/4w
pins: 1, 2

## Tro Vach 1/4W 5% 3k
designator R?, comment 3k
Cắm; Don_Vi: Con; So_Chan: 2; Ma_Hang: MH007316; Ten_Linh_Kien: Trở Vạch 1/4w 5% 3k; Chung_Loai: Cắm; Kieu_Chan: *
footprint tro vach 1/4w
pins: 1, 2

## Tro Vach 1/4W 5% 3M
designator R?, comment 3M
Cắm; So_Chan: 2; Ten_Linh_Kien: Trở Vạch 1/4w 5% 3M; Ma_Hang: MH007401; Don_Vi: Con; Chung_Loai: Cắm; Kieu_Chan: *
footprint tro vach 1/4w
pins: 1, 2

## Tro Vach 1/4W 5% 4.7k
designator R?, comment 4.7k
Cắm; Don_Vi: Con; So_Chan: 2; Ten_Linh_Kien: Trở Vạch 1/4w 5% 4.7k; Ma_Hang: MH007317; Chung_Loai: Cắm; Kieu_Chan: *
footprint tro vach 1/4w
pins: 1, 2

## Tro Vach 1/4W 5% 4.7M
designator R?, comment 4.7M
Cắm; Don_Vi: Con; So_Chan: 2; Ten_Linh_Kien: Trở Vạch 1/4W 5% 4.7M; Ma_Hang: MH007466; Chung_Loai: Cắm; Kieu_Chan: *
footprint tro vach 1/4w
pins: 1, 2

## Tro Vach 1/4W 5% 4.7R
designator R?, comment 4.7R
Cắm; Don_Vi: Con; So_Chan: 2; Ten_Linh_Kien: Trở Vạch 1/4w 5% 4.7R; Ma_Hang: MH007318; Chung_Loai: Cắm; Kieu_Chan: *
footprint tro vach 1/4w
pins: 1, 2

## Tro Vach 1/4w 5% 5.1k
designator R?, comment 5.1k
Cắm; Don_Vi: Con; So_Chan: 2; Ten_Linh_Kien: Trở Vạch 1/4w 5% 5.1k; Ma_Hang: MH007322; Chung_Loai: Cắm; Kieu_Chan: *
footprint tro vach 1/4w
pins: 1, 2

## Tro Vach 1/4W 5% 5.6k
designator R?, comment 5.6k
Cắm; Don_Vi: Con; So_Chan: 2; Ten_Linh_Kien: Trở Vạch 1/4w 5% 5.6k; Ma_Hang: MH007323; Chung_Loai: Cắm; Kieu_Chan: *
footprint tro vach 1/4w
pins: 1, 2

## Tro Vach 1/4W 5% 6.8R
designator R?, comment 6.8R
Cắm; Don_Vi: Con; So_Chan: 2; Ten_Linh_Kien: Trở Vạch 1/4w 5% 6.8R; Ma_Hang: MH007406; Chung_Loai: Cắm; Kieu_Chan: *
footprint tro vach 1/4w
pins: 1, 2

## Tro Vach 1/4W 5% 7.5k
designator R?, comment 7.5k
Cắm; Don_Vi: Con; So_Chan: 2; Ten_Linh_Kien: Trở Vạch 1/4w 5% 7.5k; Ma_Hang: MH007334; Chung_Loai: Cắm; Kieu_Chan: *
footprint tro vach 1/4w
pins: 1, 2

## Tro Vach 1/4W 5% 7.5R
designator R?, comment 7.5R
Cắm; Don_Vi: Con; So_Chan: 2; Ten_Linh_Kien: Trở Vạch 1/4w 5% 7.5R; Ma_Hang: MH007335; Chung_Loai: Cắm; Kieu_Chan: *
footprint tro vach 1/4w
pins: 1, 2

## Tro Vach 1/4W 5% 8.2k
designator R?, comment 8.2k
Cắm; Don_Vi: Con; So_Chan: 2; Ten_Linh_Kien: Trở Vạch 1/4w 5% 8.2k; Ma_Hang: MH007340; Chung_Loai: Cắm; Kieu_Chan: *
footprint tro vach 1/4w
pins: 1, 2

## Tro Vach 1/4W 5% 8.2R
designator R?, comment 8.2R
Cắm; Don_Vi: Con; So_Chan: 2; Ten_Linh_Kien: Trở Vạch 1/4w 5% 8.2R; Ma_Hang: MH007341; Chung_Loai: Cắm; Kieu_Chan: *
footprint tro vach 1/4w
pins: 1, 2

## Tro Vach 1/4W 5% 9.1k
designator R?, comment 3.9k
Cắm; Don_Vi: Con; So_Chan: 2; Ten_Linh_Kien: Trở Vạch 1/4w 5% 9.1k; Ma_Hang: MH008787; Chung_Loai: Cắm; Kieu_Chan: *
footprint tro vach 1/4w
pins: 1, 2

## Tro Vach 1/4W 5% 10k
designator R?, comment 10k
Căm; Chung_Loai: Cắm; Don_Vi: Con; So_Chan: 2; Ten_Linh_Kien: Trở Vạch 1/4w 5% 10K; Ma_Hang: MH007354; Kieu_Chan: *
footprint tro vach 1/4w
pins: 1, 2

## Tro Vach 1/4W 5% 10M
designator R?, comment 10M
Cắm; Don_Vi: Con; So_Chan: 2; Ten_Linh_Kien: Trở Vạch 1/4w 5% 10M; Ma_Hang: MH007385; Chung_Loai: Cắm; Kieu_Chan: *
footprint tro vach 1/4w
pins: 1, 2

## Tro Vach 1/4W 5% 10R
designator R?, comment 10R
Cắm; Don_Vi: Con; So_Chan: 2; Ten_Linh_Kien: Trở Vạch 1/4w 5% 10R; Ma_Hang: MH007386; Chung_Loai: Cắm; Kieu_Chan: *
footprint tro vach 1/4w
pins: 1, 2

## Tro Vach 1/4W 5% 12k
designator R?, comment 12k
Cắm; Don_Vi: Con; So_Chan: 2; Ma_Hang: MH007389; Ten_Linh_Kien: Trở Vạch 1/4w 5% 12k; Chung_Loai: Cắm; Kieu_Chan: *
footprint tro vach 1/4w
pins: 1, 2

## Tro Vach 1/4W 5% 12R
designator R?, comment 12R
Cắm; Don_Vi: Con; So_Chan: 2; Ten_Linh_Kien: Trở Vạch 1/4w 5% 12R; Ma_Hang: MH005022; Chung_Loai: Cắm; Kieu_Chan: *
footprint tro vach 1/4w
pins: 1, 2

## Tro Vach 1/4W 5% 15k
designator R?, comment 15k
Cắm; Don_Vi: Con; So_Chan: 2; Ten_Linh_Kien: Trở Vạch 1/4w 5% 15k; Ma_Hang: MH007288; Chung_Loai: Cắm; Kieu_Chan: *
footprint tro vach 1/4w
pins: 1, 2

## Tro Vach 1/4W 5% 15R
designator R?, comment 15R
Cắm; So_Chan: 2; Don_Vi: Con; Ten_Linh_Kien: Trở Vach 1/4W 5% 15R; Ma_Hang: MH007415; Chung_Loai: Cắm; Kieu_Chan: *
footprint tro vach 1/4w
pins: 1, 2

## Tro Vach 1/4W 5% 18k
designator R?, comment 18k
Cắm; Don_Vi: Con; So_Chan: 2; Ten_Linh_Kien: Trở Vạch 1/4w 5% 18k; Ma_Hang: MH007291; Chung_Loai: Cắm; Kieu_Chan: *
footprint tro vach 1/4w
pins: 1, 2

## Tro Vach 1/4W 5% 18R
designator R?, comment 18R
Cắm; Don_Vi: Con; So_Chan: 2; Ten_Linh_Kien: Trở Vạch 1/4w 5% 18R; Ma_Hang: MH007292; Chung_Loai: Cắm; Kieu_Chan: *
footprint tro vach 1/4w
pins: 1, 2

## Tro Vach 1/4W 5% 20k
designator R?, comment 20k
Cắm; Don_Vi: Con; So_Chan: 2; Ten_Linh_Kien: Trở Vạch 1/4w 5% 20k; Ma_Hang: MH007297; Chung_Loai: Cắm; Kieu_Chan: *
footprint tro vach 1/4w
pins: 1, 2

## Tro Vach 1/4W 5% 20R
designator R?, comment 20R
Cắm; Don_Vi: Con; So_Chan: 2; Ma_Hang: MH007298; Ten_Linh_Kien: Trở Vạch 1/4w 5% 20R; Chung_Loai: Cắm; Kieu_Chan: *
footprint tro vach 1/4w
pins: 1, 2

## Tro Vach 1/4W 5% 22k
designator R?, comment 22k
Cắm; Don_Vi: Con; So_Chan: 2; Ten_Linh_Kien: Trở Vạch 1/4w 5% 22k; Ma_Hang: MH007301; Chung_Loai: Cắm; Kieu_Chan: *
footprint tro vach 1/4w
pins: 1, 2

## Tro Vach 1/4W 5% 22R
designator R?, comment 22R
Cắm; Don_Vi: Con; So_Chan: 2; Ten_Linh_Kien: Trở Vạch 1/4w 5% 22R; Ma_Hang: MH007302; Chung_Loai: Cắm; Kieu_Chan: *
footprint tro vach 1/4w
pins: 1, 2

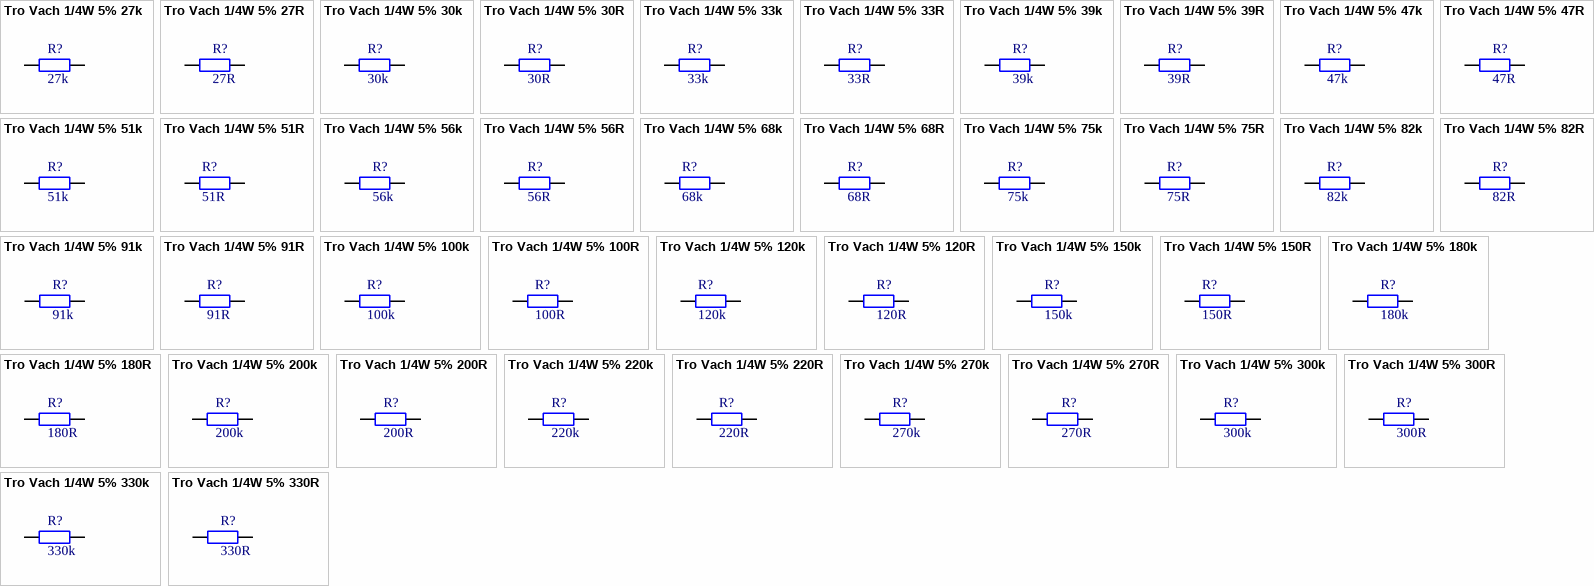
[diagram p11: symbols Tro Vach 1/4W 5% 27k to Tro Vach 1/4W 5% 330R]

## Tro Vach 1/4W 5% 27k
designator R?, comment 27k
Cắm; Don_Vi: Con; So_Chan: 2; Ten_Linh_Kien: Trở Vạch 1/4w 5% 27k; Ma_Hang: MH007304; Chung_Loai: Cắm; Kieu_Chan: *
footprint tro vach 1/4w
pins: 1, 2

## Tro Vach 1/4W 5% 27R
designator R?, comment 27R
Cắm; So_Chan: 2; Don_Vi: Con; Ten_Linh_Kien: Trở Vạch 1/4w 5% 27R; Ma_Hang: MH007397; Chung_Loai: Cắm; Kieu_Chan: *
footprint tro vach 1/4w
pins: 1, 2

## Tro Vach 1/4W 5% 30k
designator R?, comment 30k
Cắm; Don_Vi: Con; So_Chan: 2; Ten_Linh_Kien: Trở Vạch 1/4w 5% 30k; Ma_Hang: MH007310; Chung_Loai: Cắm; Kieu_Chan: *
footprint tro vach 1/4w
pins: 1, 2

## Tro Vach 1/4W 5% 30R
designator R?, comment 30R
Cắm; Don_Vi: Con; So_Chan: 2; Ten_Linh_Kien: Trở Vạch 1/4w 5% 30R; Ma_Hang: MH007311; Chung_Loai: Cắm; Kieu_Chan: *
footprint tro vach 1/4w
pins: 1, 2

## Tro Vach 1/4W 5% 33k
designator R?, comment 33k
Cắm; Don_Vi: Con; So_Chan: 2; Ten_Linh_Kien: Trở Vạch 1/4w 5% 33k; Ma_Hang: MH007313; Chung_Loai: Cắm; Kieu_Chan: *
footprint tro vach 1/4w
pins: 1, 2

## Tro Vach 1/4W 5% 33R
designator R?, comment 33R
Cắm; So_Chan: 2; Ten_Linh_Kien: Trở Vạch 1/4w 5% 33R; Don_Vi: Con; Ma_Hang: MH007398; Chung_Loai: Cắm; Kieu_Chan: *
footprint tro vach 1/4w
pins: 1, 2

## Tro Vach 1/4W 5% 39k
designator R?, comment 39k
Cắm; Don_Vi: Con; So_Chan: 2; Ten_Linh_Kien: Trở Vạch 1/4w 5% 39k; Ma_Hang: MH007314; Chung_Loai: Cắm; Kieu_Chan: *
footprint tro vach 1/4w
pins: 1, 2

## Tro Vach 1/4W 5% 39R
designator R?, comment 39R
Cắm; So_Chan: 2; Don_Vi: Con; Ten_Linh_Kien: Trở Vạch 1/4w 5% 39R; Ma_Hang: MH007315; Chung_Loai: Cắm; Kieu_Chan: *
footprint tro vach 1/4w
pins: 1, 2

## Tro Vach 1/4W 5% 47k
designator R?, comment 47k
Cắm; Don_Vi: Con; So_Chan: 2; Ten_Linh_Kien: Trở Vạch 1/4w 5% 47k; Ma_Hang: MH004982; Chung_Loai: Cắm; Kieu_Chan: *
footprint tro vach 1/4w
pins: 1, 2

## Tro Vach 1/4W 5% 47R
designator R?, comment 47R
Cắm; Don_Vi: Con; So_Chan: 2; Ten_Linh_Kien: Trở Vạch 1/4w 5% 47R; Ma_Hang: MH007321; Chung_Loai: Cắm; Kieu_Chan: *
footprint tro vach 1/4w
pins: 1, 2

## Tro Vach 1/4W 5% 51k
designator R?, comment 51k
Cắm; So_Chan: 2; Don_Vi: Con; Ten_Linh_Kien: Trở Vạch 1/4w 5% 51k; Ma_Hang: MH007326; Chung_Loai: Cắm; Kieu_Chan: *
footprint tro vach 1/4w
pins: 1, 2

## Tro Vach 1/4W 5% 51R
designator R?, comment 51R
Cắm; Don_Vi: Con; So_Chan: 2; Ten_Linh_Kien: Trở Vạch 1/4w 5% 51R; Ma_Hang: MH007327; Chung_Loai: Cắm; Kieu_Chan: *
footprint tro vach 1/4w
pins: 1, 2

## Tro Vach 1/4W 5% 56k
designator R?, comment 56k
Cắm; Don_Vi: Con; So_Chan: 2; Ten_Linh_Kien: Trở Vạch 1/4w 5% 56k; Ma_Hang: MH007329; Chung_Loai: Cắm; Kieu_Chan: *
footprint tro vach 1/4w
pins: 1, 2

## Tro Vach 1/4W 5% 56R
designator R?, comment 56R
Cắm; Don_Vi: Con; So_Chan: 2; Ten_Linh_Kien: Trở Vạch 1/4w 5% 56R; Ma_Hang: MH007404; Chung_Loai: Cắm; Kieu_Chan: *
footprint tro vach 1/4w
pins: 1, 2

## Tro Vach 1/4W 5% 68k
designator R?, comment 68k
Cắm; Don_Vi: Con; So_Chan: 2; Ten_Linh_Kien: Trở Vạch 1/4w 5% 68k; Ma_Hang: MH007332; Kieu_Chan: *; Chung_Loai: Cắm
footprint tro vach 1/4w
pins: 1, 2

## Tro Vach 1/4W 5% 68R
designator R?, comment 68R
Căm; Chung_Loai: Cắm; Don_Vi: Con; So_Chan: 2; Ten_Linh_Kien: Trở Vạch 1/4w 5% 68R; Ma_Hang: MH007333; Kieu_Chan: *
footprint tro vach 1/4w
pins: 1, 2

## Tro Vach 1/4W 5% 75k
designator R?, comment 75k
Cắm; Don_Vi: Con; So_Chan: 2; Ten_Linh_Kien: Trở Vạch 1/4W 5% 75k; Ma_Hang: MH008788; Chung_Loai: Cắm; Kieu_Chan: *
footprint tro vach 1/4w
pins: 1, 2

## Tro Vach 1/4W 5% 75R
designator R?, comment 75R
Cắm; Don_Vi: Con; So_Chan: 2; Ten_Linh_Kien: Trở Vạch 1/4w 5% 75R; Ma_Hang: MH007339; Chung_Loai: Cắm; Kieu_Chan: *
footprint tro vach 1/4w
pins: 1, 2

## Tro Vach 1/4W 5% 82k
designator R?, comment 82k
Cắm; Don_Vi: Con; So_Chan: 2; Ten_Linh_Kien: Trở Vạch 1/4w 5% 82k; Ma_Hang: MH007408; Chung_Loai: Cắm; Kieu_Chan: *
footprint tro vach 1/4w
pins: 1, 2

## Tro Vach 1/4W 5% 82R
designator R?, comment 82R
Cắm; Don_Vi: Con; So_Chan: 2; Ten_Linh_Kien: Trở Vạch 1/4w 5% 82R; Ma_Hang: MH007344; Chung_Loai: Cắm; Kieu_Chan: *
footprint tro vach 1/4w
pins: 1, 2

## Tro Vach 1/4W 5% 91k
designator R?, comment 91k
Cắm; Don_Vi: Con; So_Chan: 2; Ten_Linh_Kien: Trở Vạch 1/4w 5% 91k; Ma_Hang: MH007346; Chung_Loai: Cắm; Kieu_Chan: *
footprint tro vach 1/4w
pins: 1, 2

## Tro Vach 1/4W 5% 91R
designator R?, comment 91R
Cắm; Ten_Linh_Kien: Trở Vạch 1/4w 5% 91R; Ma_Hang: MH007347; Don_Vi: Con; So_Chan: 2; Chung_Loai: Cắm; Kieu_Chan: *
footprint tro vach 1/4w
pins: 1, 2

## Tro Vach 1/4W 5% 100k
designator R?, comment 100k
Cắm; Don_Vi: Con; So_Chan: 2; Ten_Linh_Kien: Trở Vạch 1/4w 5% 100k; Ma_Hang: MH007352; Chung_Loai: Cắm; Kieu_Chan: *
footprint tro vach 1/4w
pins: 1, 2

## Tro Vach 1/4W 5% 100R
designator R?, comment 100R
Cắm; Don_Vi: Con; So_Chan: 2; Ten_Linh_Kien: Trở Vạch 1/4w 5% 100R; Ma_Hang: MH007353; Chung_Loai: Cắm; Kieu_Chan: *
footprint tro vach 1/4w
pins: 1, 2

## Tro Vach 1/4W 5% 120k
designator R?, comment 120k
Cắm; Don_Vi: Con; So_Chan: 2; Ten_Linh_Kien: Trở Vạch 1/4w 5% 120k; Ma_Hang: MH007387; Chung_Loai: Cắm; Kieu_Chan: *
footprint tro vach 1/4w
pins: 1, 2

## Tro Vach 1/4W 5% 120R
designator R?, comment 120R
Cắm; Don_Vi: Con; So_Chan: 2; Ten_Linh_Kien: Trở Vạch 1/4W 5% 120R; Ma_Hang: MH007388; Chung_Loai: Cắm; Kieu_Chan: *
footprint tro vach 1/4w
pins: 1, 2

## Tro Vach 1/4W 5% 150k
designator R?, comment 150k
Cắm; Don_Vi: Con; So_Chan: 2; Ten_Linh_Kien: Trở Vạch 1/4w 5% 150k; Ma_Hang: MH007286; Chung_Loai: Cắm; Kieu_Chan: *
footprint Tro vach 1/4w
pins: 1, 2

## Tro Vach 1/4W 5% 150R
designator R?, comment 150R
Cắm; Don_Vi: Con; So_Chan: 2; Ten_Linh_Kien: Trở Vạch 1/4w 5% 150R; Ma_Hang: MH007287; Chung_Loai: Cắm; Kieu_Chan: *
footprint tro vach 1/4w
pins: 1, 2

## Tro Vach 1/4W 5% 180k
designator R?, comment 180k
Cắm; Don_Vi: Con; So_Chan: 2; Ten_Linh_Kien: Trở Vạch 1/4w 5% 180k; Ma_Hang: MH007289; Chung_Loai: Cắm; Kieu_Chan: *
footprint tro vach 1/4w
pins: 1, 2

## Tro Vach 1/4W 5% 180R
designator R?, comment 180R
Cắm; Don_Vi: Con; Ten_Linh_Kien: Trở Vạch 1/4w 5% 180R; Ma_Hang: MH007290; So_Chan: 2; Chung_Loai: Cắm; Kieu_Chan: *
footprint tro vach 1/4w
pins: 1, 2

## Tro Vach 1/4W 5% 200k
designator R?, comment 200k
Cắm; Don_Vi: Con; So_Chan: 2; Ten_Linh_Kien: Trở Vạch 1/4w 5% 200k; Ma_Hang: MH007295; Chung_Loai: Cắm; Kieu_Chan: *
footprint tro vach 1/4w
pins: 1, 2

## Tro Vach 1/4W 5% 200R
designator R?, comment 200R
Cắm; Don_Vi: Con; So_Chan: 2; Ten_Linh_Kien: Trở Vạch 1/4w 5% 200R; Ma_Hang: MH007296; Chung_Loai: Cắm; Kieu_Chan: *
footprint tro vach 1/4w
pins: 1, 2

## Tro Vach 1/4W 5% 220k
designator R?, comment 220k
Cắm; Don_Vi: Con; So_Chan: 2; Ma_Hang: MH007299; Ten_Linh_Kien: Trở Vạch 1/4w 5% 220k; Chung_Loai: Cắm; Kieu_Chan: *
footprint tro vach 1/4w
pins: 1, 2

## Tro Vach 1/4W 5% 220R
designator R?, comment 220R
Cắm; Don_Vi: Con; So_Chan: 2; Ten_Linh_Kien: Trở Vạch 1/4w 5% 220R; Ma_Hang: MH007300; Chung_Loai: Cắm; Kieu_Chan: *
footprint tro vach 1/4w
pins: 1, 2

## Tro Vach 1/4W 5% 270k
designator R?, comment 270k
Cắm; Don_Vi: Con; So_Chan: 2; Ten_Linh_Kien: Trở Vạch 1/4w 5% 270K; Ma_Hang: MH007396; Chung_Loai: Cắm; Kieu_Chan: *
footprint tro vach 1/4w
pins: 1, 2

## Tro Vach 1/4W 5% 270R
designator R?, comment 270R
Cắm; So_Chan: 2; Ma_Hang: MH007303; Don_Vi: Con; Ten_Linh_Kien: Trở Vạch 1/4w 5% 270R; Chung_Loai: Cắm; Kieu_Chan: *
footprint tro vach 1/4w
pins: 1, 2